# Altium schematic symbol library ATROTECH.SchLib: 260 symbols (part 1 of 2)
Pins are listed as number, name and electrical type; pins without a type are passive.

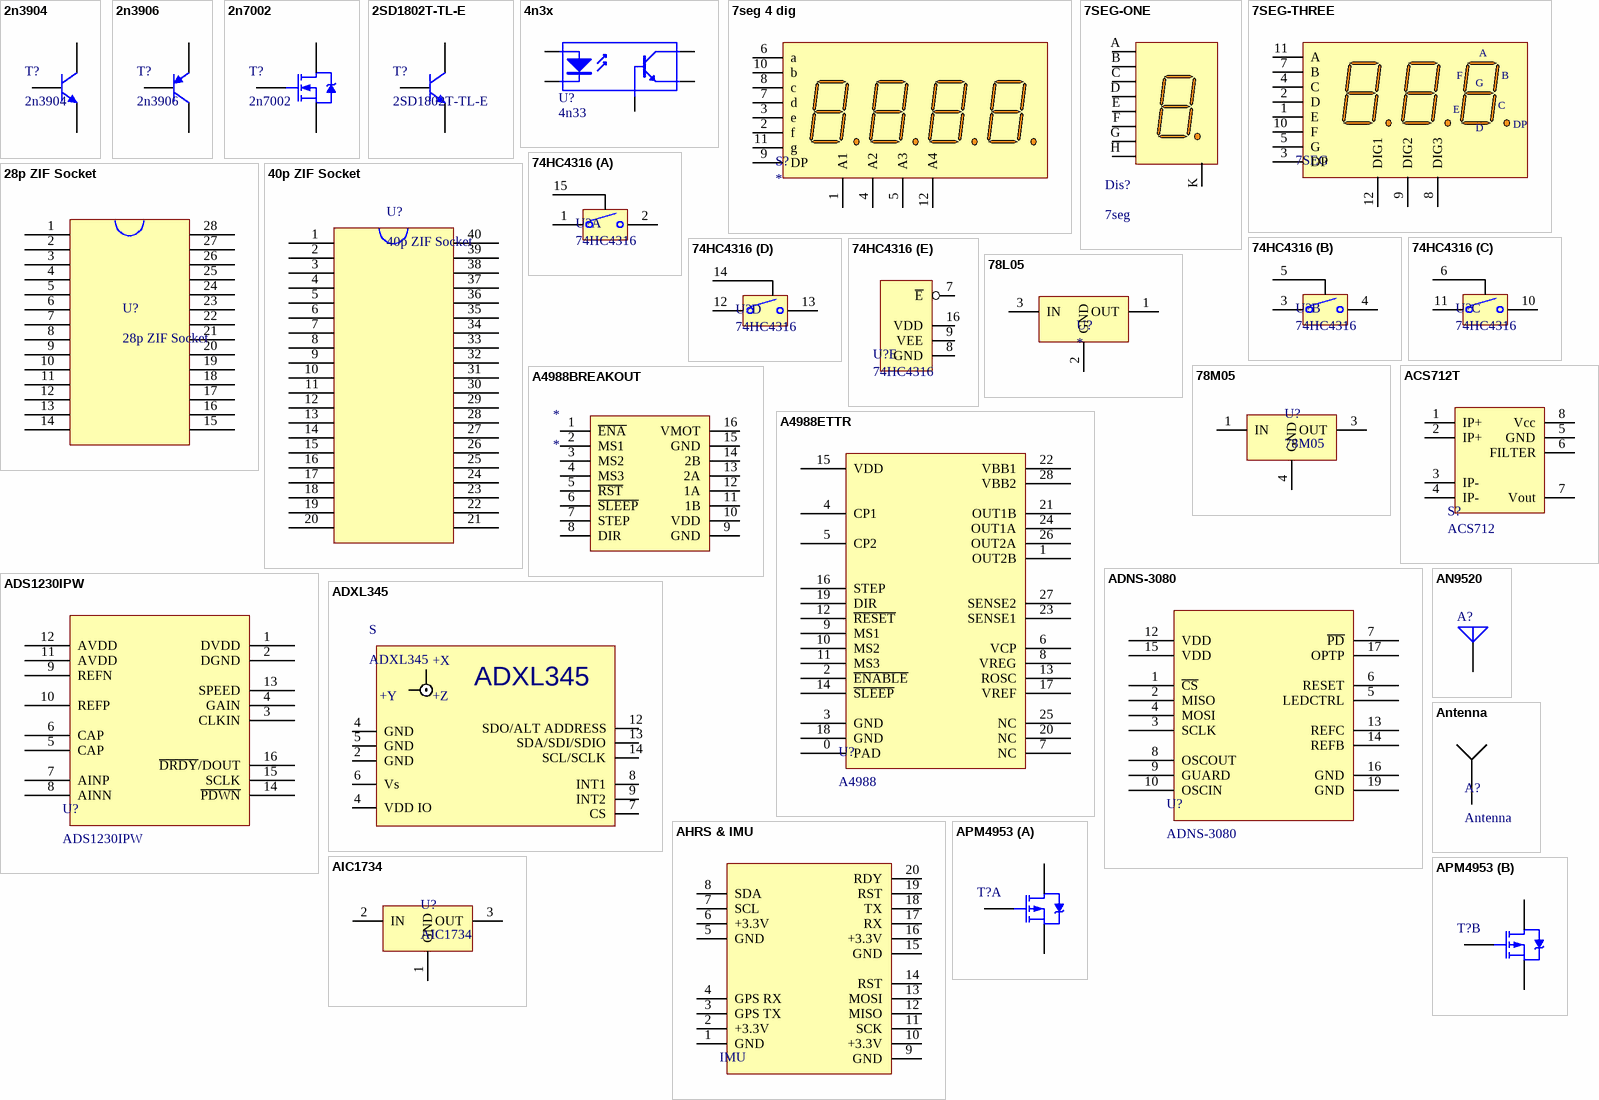
[diagram p0: symbols 2n3904 to APM4953]

## 2n3904
designator T?
Mark: 1A
footprint SOT-23-3 (SOT-23 3PIN)
pins: 1 C, 2 E, 3 B

## 2n3906
designator T?
Mark: 2A
footprint SOT-23-3 (SOT-23 3PIN)
pins: 1 C, 2 E, 3 B

## 2n7002
designator T?
footprint SOT-23-3 (SOT-23 3PIN)
pins: 1 G, 2 S, 3 D

## 2SD1802T-TL-E
designator T?
High-Current Switching  Applications; MANUFACTOR: SANYO Semiconductors
footprint TO-252
pins: 1 B, 3 E, 4 C

## 4n3x
designator U?, comment 4n33
Optocoupler, Photodarlington Output, High Gain, / With Base Connection
footprint SOP-6
pins: 1 A "Anode", 2 K "Cathode", 4 E "Emitter", 5 C "Collector", 6 B "Base"

## 7seg 4 dig
designator S?
footprint 7seg 4dig
pins: 1 A1 "Anode", 2 f "Cathode", 3 e "Cathode", 4 A2 "Anode", 5 A3 "Anode", 6 a "Cathode", 7 d "Cathode", 8 c "Cathode", 9 DP "Cathode", 10 b "Cathode", 11 g "Cathode", 12 A4 "Anode"

## 7SEG-ONE
designator Dis?, comment 7seg
Desgner: Parsa Malekpour; blog: p-malekpour.blogfa.com; Email: malekpour.parsa@Gmail.com
footprint 7SEG-BIG-SINGLE (big 7segment)
pins: A, B, C, D, E, F, G, H, K

## 7SEG-THREE
designator 7SEG, comment TRIPLE  (value not drawn)
CL5361
footprint 7SEG-THREE
pins: 1 E "Cathode", 2 D "Cathode", 3 DP "Cathode", 4 C "Cathode", 5 G "Cathode", 7 B "Cathode", 8 DIG3 "Anode", 9 DIG2 "Anode", 10 F "Cathode", 11 A "Cathode", 12 DIG1 "Anode"

## 28p ZIF Socket
designator U?
40 Pin Zif Socket
footprint Dip40 (40pin Dip IC)
pins: 1, 2, 3, 4, 5, 6, 7, 8, 9, 10, 11, 12, 13, 14, 15, 16, 17, 18, 19, 20, 21, 22, 23, 24, 25, 26, 27, 28

## 40p ZIF Socket
designator U?
40 Pin Zif Socket
footprint Dip40 (40pin Dip IC)
pins: 1, 2, 3, 4, 5, 6, 7, 8, 9, 10, 11, 12, 13, 14, 15, 16, 17, 18, 19, 20, 21, 22, 23, 24, 25, 26, 27, 28, 29, 30, 31, 32, 33, 34, 35, 36, 37, 38, 39, 40

## 74HC4316
designator U?
footprint SOIC-16N
part A pins: 1, 2, 15 1S
part B pins: 3 2Y, 4 2Z, 5 2S
part C pins: 6 3S, 10 3Z, 11 3Y
part D pins: 12 4Y, 13 4Z, 14 4S
part E pins: 7 ~{E}, 8 GND, 9 VEE, 16 VDD

## 78L05
designator U?
footprint TO-92
pins: 1 OUT, 2 GND, 3 IN

## 78M05
designator U?
footprint TO-252
pins: 1 IN, 3 OUT, 4 GND

## A4988BREAKOUT
designator *
footprint A4988BREAKOUT
pins: 1 ~{ENA}, 2 MS1, 3 MS2, 4 MS3, 5 ~{RST}, 6 ~{SLEEP}, 7 STEP, 8 DIR, 9 GND, 10 VDD, 11 1B, 12 1A, 13 2A, 14 2B, 15 GND, 16 VMOT

## A4988ETTR
designator U?, comment A4988
DMOS Microstepping Driver with Translator  And Overcurrent Protection
footprint QFN-28
pins: 0 PAD, 1 OUT2B, 2 ~{ENABLE}, 3 GND, 4 CP1, 5 CP2, 6 VCP, 7 NC, 8 VREG, 9 MS1, 10 MS2, 11 MS3, 12 ~{RESET}, 13 ROSC, 14 ~{SLEEP}, 15 VDD, 16 STEP, 17 VREF, 18 GND, 19 DIR, 20 NC, 21 OUT1B, 22 VBB1, 23 SENSE1, 24 OUT1A, 25 NC, 26 OUT2A, 27 SENSE2, 28 VBB2

## ACS712T
designator S?, comment ACS712
Hall Effect-Based Linear Current Sensor; Designer: Parsa Malekpour; Blog: p-malekpour.blogfa.com
footprint SOIC-8N
pins: 1 IP+, 2 IP+, 3 IP-, 4 IP-, 5 GND, 6 FILTER, 7 Vout, 8 Vcc

## ADNS-3080
designator U?
footprint ADNS-3080
pins: 1 ~{CS}, 2 MISO, 3 SCLK, 4 MOSI, 5 LEDCTRL, 6 RESET, 7 ~{PD}, 8 OSCOUT, 9 GUARD, 10 OSCIN, 11 NC hidden, 12 VDD, 13 REFC, 14 REFB, 15 VDD, 16 GND, 17 OPTP, 18 NC hidden, 19 GND, 20 NC hidden

## ADS1230IPW
designator U?
20-Bit Analog-to-Digital Converter / For Bridge Sensors
footprint TSSOP-16
pins: 1 DVDD, 2 DGND, 3 CLKIN, 4 GAIN, 5 CAP, 6 CAP, 7 AINP, 8 AINN, 9 REFN, 10 REFP, 11 AVDD, 12 AVDD, 13 SPEED, 14 ~{PDWN}, 15 SCLK, 16 ~{DRDY}/DOUT

## ADXL345
designator S
Digital Accelerometer; Designer: Parsa Malekpour
footprint CC-14-1
pins: 2 GND, 4 GND, 4 VDD IO, 5 GND, 6 Vs, 7 CS "Chip Select.", 8 INT1, 9 INT2, 12 SDO/ALT ADDRESS "Serial Data Output/Alternate I2C Address Select.", 13 SDA/SDI/SDIO "Serial Data (I2C)/Serial Data Input (SPI 4-Wire)/Serial Data Input and Output (SPI 3-Wire).", 14 SCL/SCLK "Serial Communications Clock."
text: +X; +Y; +Z

## AHRS & IMU
designator IMU, comment IMU  (value not drawn)
footprint AHRS
pins: 1 GND, 2 +3.3V, 3 GPS TX, 4 GPS RX, 5 GND, 6 +3.3V, 7 SCL, 8 SDA, 9 GND, 10 +3.3V, 11 SCK, 12 MISO, 13 MOSI, 14 RST, 15 GND, 16 +3.3V, 17 RX, 18 TX, 19 RST, 20 RDY

## AIC1734
designator U?
footprint SOT-89
pins: 1 GND, 2 IN, 3 OUT

## AN9520
designator A?  (value not drawn)
Multilayer Chip Antenna for / 2.4GHz Wireless Communication; Published: 24-Mar-1999; LatestRevisionDate: 17-Jul-2002; LatestRevisionNote: Re-released for DXP Platform.; PackageReference: PIN1; Publisher: Altium Limited
footprint AN9520
pins: 1 A

## Antenna
designator A?
footprint Inverted-F Antenna
pins: 1 RF

## APM4953
designator T?  (value not drawn)
Dual P-Channel Enhancement Mode Mosfet
footprint SOIC-8N
part A pins: 1 S, 2 G, 7 D, 8 D
part B pins: 3 S, 4 G, 5 D, 6 D

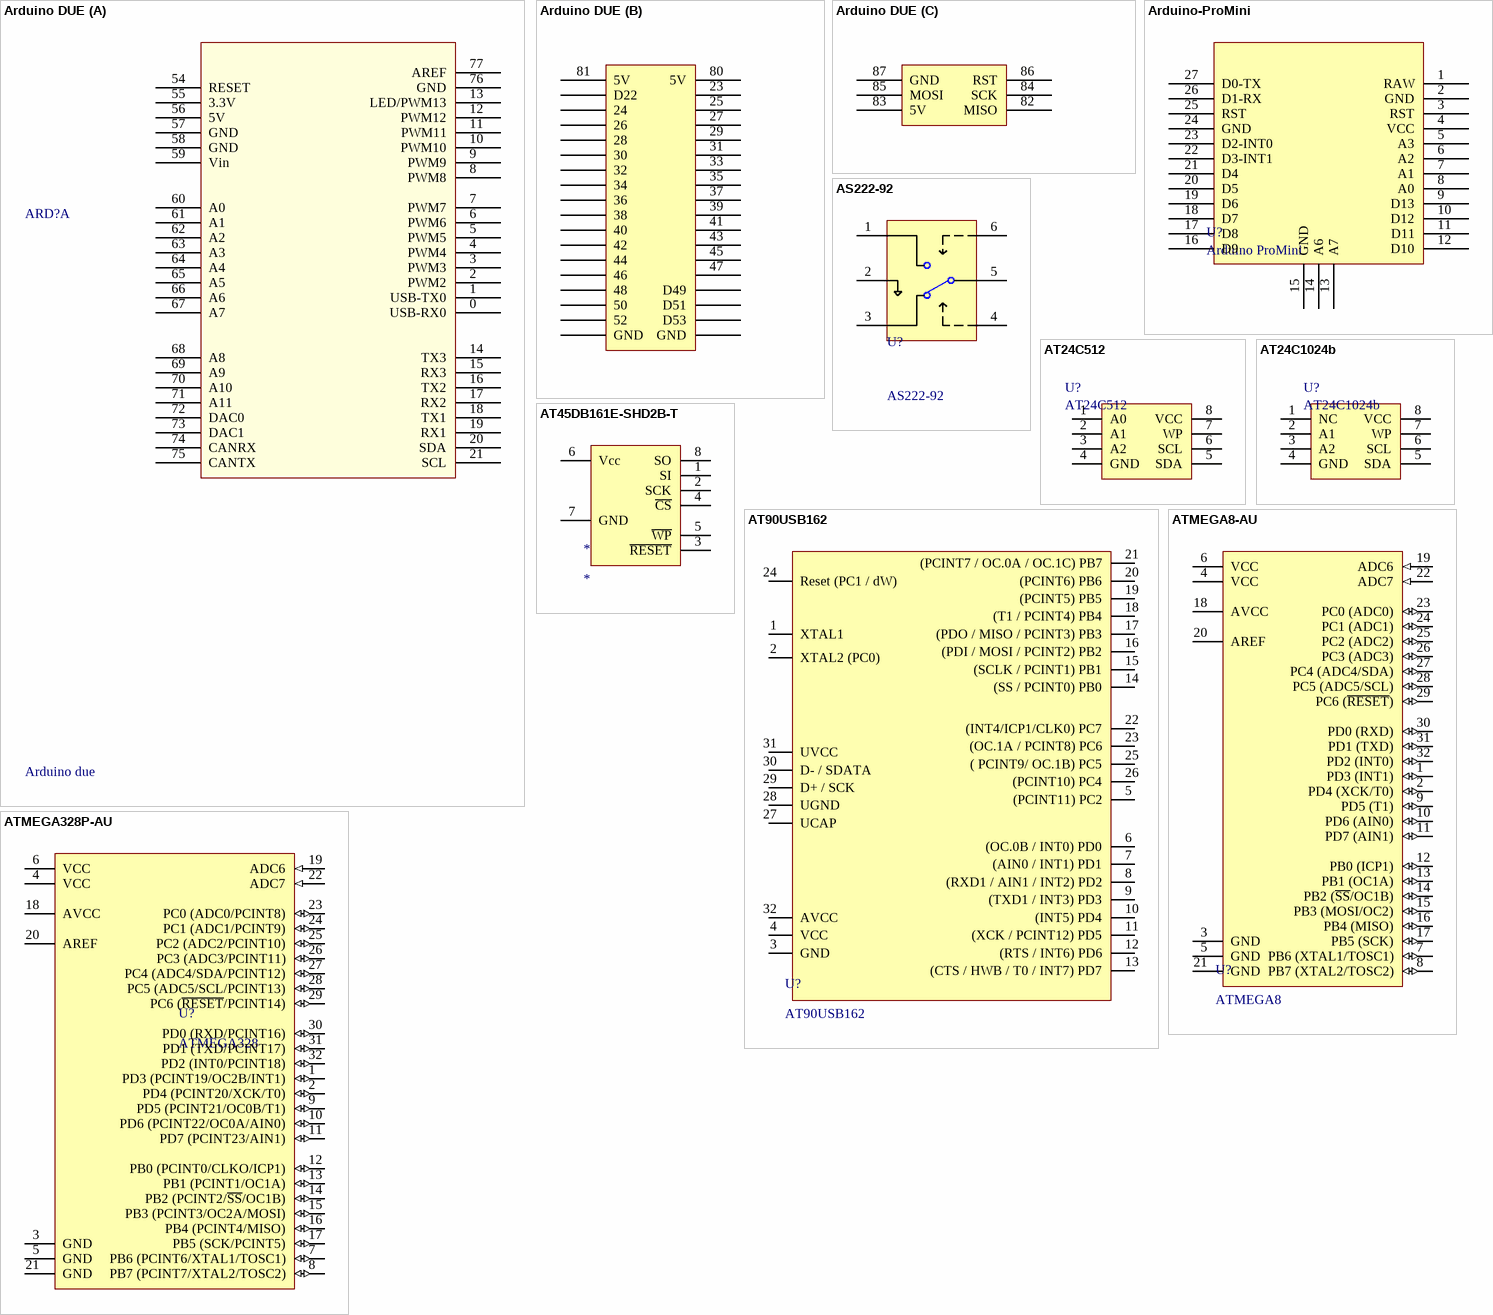
[diagram p1: symbols Arduino DUE to ATMEGA328P-AU]

## Arduino DUE
designator ARD?, comment Arduino due
footprint arduino-due
part A pins: 0 USB-RX0, 1 USB-TX0, 2 PWM2, 3 PWM3, 4 PWM4, 5 PWM5, 6 PWM6, 7 PWM7, 8 PWM8, 9 PWM9, 10 PWM10, 11 PWM11, 12 PWM12, 13 LED/PWM13, 14 TX3, 15 RX3, 16 TX2, 17 RX2, 18 TX1, 19 RX1, 20 SDA, 21 SCL, 54 RESET, 55 3.3V, 56 5V, 57 GND, 58 GND, 59 Vin, 60 A0, 61 A1, 62 A2, 63 A3, 64 A4, 65 A5, 66 A6, 67 A7, 68 A8, 69 A9, 70 A10, 71 A11, 72 DAC0, 73 DAC1, 74 CANRX, 75 CANTX, 76 GND, 77 AREF
part B pins: 22 D22, 23, 24, 25, 26, 27, 28, 29, 30, 31, 32, 33, 34, 35, 36, 37, 38, 39, 40, 41, 42, 43, 44, 45, 46, 47, 48, 49 D49, 50, 51 D51, 52, 53 D53, 78 GND, 79 GND, 80 5V, 81 5V
part C pins: 82 MISO, 83 5V, 84 SCK, 85 MOSI, 86 RST, 87 GND

## Arduino-ProMini
designator U?, comment Arduino ProMini
footprint ARDUINO-PROMINI
pins: 1 RAW, 2 GND, 3 RST, 4 VCC, 5 A3, 6 A2, 7 A1, 8 A0, 9 D13, 10 D12, 11 D11, 12 D10, 13 A7, 14 A6, 15 GND, 16 D9, 17 D8, 18 D7, 19 D6, 20 D5, 21 D4, 22 D3-INT1, 23 D2-INT0, 24 GND, 25 RST, 26 D1-RX, 27 D0-TX

## AS222-92
designator U?
PHEMT GaAs IC SPDT Switch; Publisher: ATROPATE.COM
footprint SC-70-6
pins: 1 J3, 2 GND, 3 J2, 4 V1, 5 J1, 6 V2

## AT24C512
designator U?
512B EEPROM
footprint DIP8 (Footprint not found)
3D model DIP8 (PCB3D Model)
footprint soic-8n
pins: 1 A0, 2 A1, 3 A2, 4 GND, 5 SDA, 6 SCL, 7 WP, 8 VCC

## AT24C1024b
designator U?
1028 byte serial EEPROM
footprint DIP8 (Footprint not found)
pins: 1 NC, 2 A1, 3 A2, 4 GND, 5 SDA, 6 SCL, 7 WP, 8 VCC

## AT45DB161E-SHD2B-T
designator *
pins: 1 SI, 2 SCK, 3 ~{RESET}, 4 ~{CS}, 5 ~{WP}, 6 Vcc, 7 GND, 8 SO

## AT90USB162
designator U?
AT90USB162 ATMEL MICRO; DESIGNER: PARSA MALEKPOUR
footprint 32A_N (Footprint not found)
pins: 1 XTAL1, 2 XTAL2 (PC0) , 3 GND, 4 VCC, 5 (PCINT11) PC2, 6 (OC.0B / INT0) PD0, 7 (AIN0 / INT1) PD1, 8 (RXD1 / AIN1 / INT2) PD2, 9 (TXD1 / INT3) PD3, 10 (INT5) PD4, 11 (XCK / PCINT12) PD5, 12 (RTS / INT6) PD6, 13 (CTS / HWB / T0 / INT7) PD7, 14 (SS / PCINT0) PB0, 15 (SCLK / PCINT1) PB1, 16 (PDI / MOSI / PCINT2) PB2, 17 (PDO / MISO / PCINT3) PB3, 18 (T1 / PCINT4) PB4, 19 (PCINT5) PB5, 20 (PCINT6) PB6, 21 (PCINT7 / OC.0A / OC.1C) PB7, 22 (INT4/ICP1/CLK0) PC7, 23 (OC.1A / PCINT8) PC6, 24 Reset (PC1 / dW), 25 ( PCINT9/ OC.1B) PC5, 26 (PCINT10) PC4, 27 UCAP, 28 UGND, 29 D+ / SCK, 30 D- / SDATA, 31 UVCC, 32 AVCC

## ATMEGA8-AU
designator U?, comment ATMEGA8
8-bit AVR Microcontroller, 8KB Flash, 512 Bytes EEPROM, 1KB SRAM, 32-pin TQFP, Industrial Grade (-40°C to 85°C)
footprint TQFP-32
pins: 1 PD3 (INT1) (io), 2 PD4 (XCK/T0) (io), 3 GND (power), 4 VCC (power), 5 GND (power), 6 VCC (power), 7 PB6 (XTAL1/TOSC1) (io), 8 PB7 (XTAL2/TOSC2) (io), 9 PD5 (T1) (io), 10 PD6 (AIN0) (io), 11 PD7 (AIN1) (io), 12 PB0 (ICP1) (io), 13 PB1 (OC1A) (io), 14 PB2 (~{SS}/OC1B) (io), 15 PB3 (MOSI/OC2) (io), 16 PB4 (MISO) (io), 17 PB5 (SCK) (io), 18 AVCC (power), 19 ADC6 (in), 20 AREF (power), 21 GND (power), 22 ADC7 (in), 23 PC0 (ADC0) (io), 24 PC1 (ADC1) (io), 25 PC2 (ADC2) (io), 26 PC3 (ADC3) (io), 27 PC4 (ADC4/SDA) (io), 28 PC5 (ADC5/SCL) (io), 29 PC6 (~{RESET}) (io), 30 PD0 (RXD) (io), 31 PD1 (TXD) (io), 32 PD2 (INT0) (io)

## ATMEGA328P-AU
designator U?, comment ATMEGA328
footprint TQFP-32
pins: 1 PD3 (PCINT19/OC2B/INT1) (io), 2 PD4 (PCINT20/XCK/T0) (io), 3 GND (power), 4 VCC (power), 5 GND (power), 6 VCC (power), 7 PB6 (PCINT6/XTAL1/TOSC1) (io), 8 PB7 (PCINT7/XTAL2/TOSC2) (io), 9 PD5 (PCINT21/OC0B/T1) (io), 10 PD6 (PCINT22/OC0A/AIN0) (io), 11 PD7 (PCINT23/AIN1) (io), 12 PB0 (PCINT0/CLKO/ICP1) (io), 13 PB1 (PCINT1/OC1A) (io), 14 PB2 (PCINT2/~{SS}/OC1B) (io), 15 PB3 (PCINT3/OC2A/MOSI) (io), 16 PB4 (PCINT4/MISO) (io), 17 PB5 (SCK/PCINT5) (io), 18 AVCC (power), 19 ADC6 (in), 20 AREF, 21 GND (power), 22 ADC7 (in), 23 PC0 (ADC0/PCINT8) (io), 24 PC1 (ADC1/PCINT9) (io), 25 PC2 (ADC2/PCINT10) (io), 26 PC3 (ADC3/PCINT11) (io), 27 PC4 (ADC4/SDA/PCINT12) (io), 28 PC5 (ADC5/SCL/PCINT13) (io), 29 PC6 (~{RESET}/PCINT14) (io), 30 PD0 (RXD/PCINT16) (io), 31 PD1 (TXD/PCINT17) (io), 32 PD2 (INT0/PCINT18) (io)

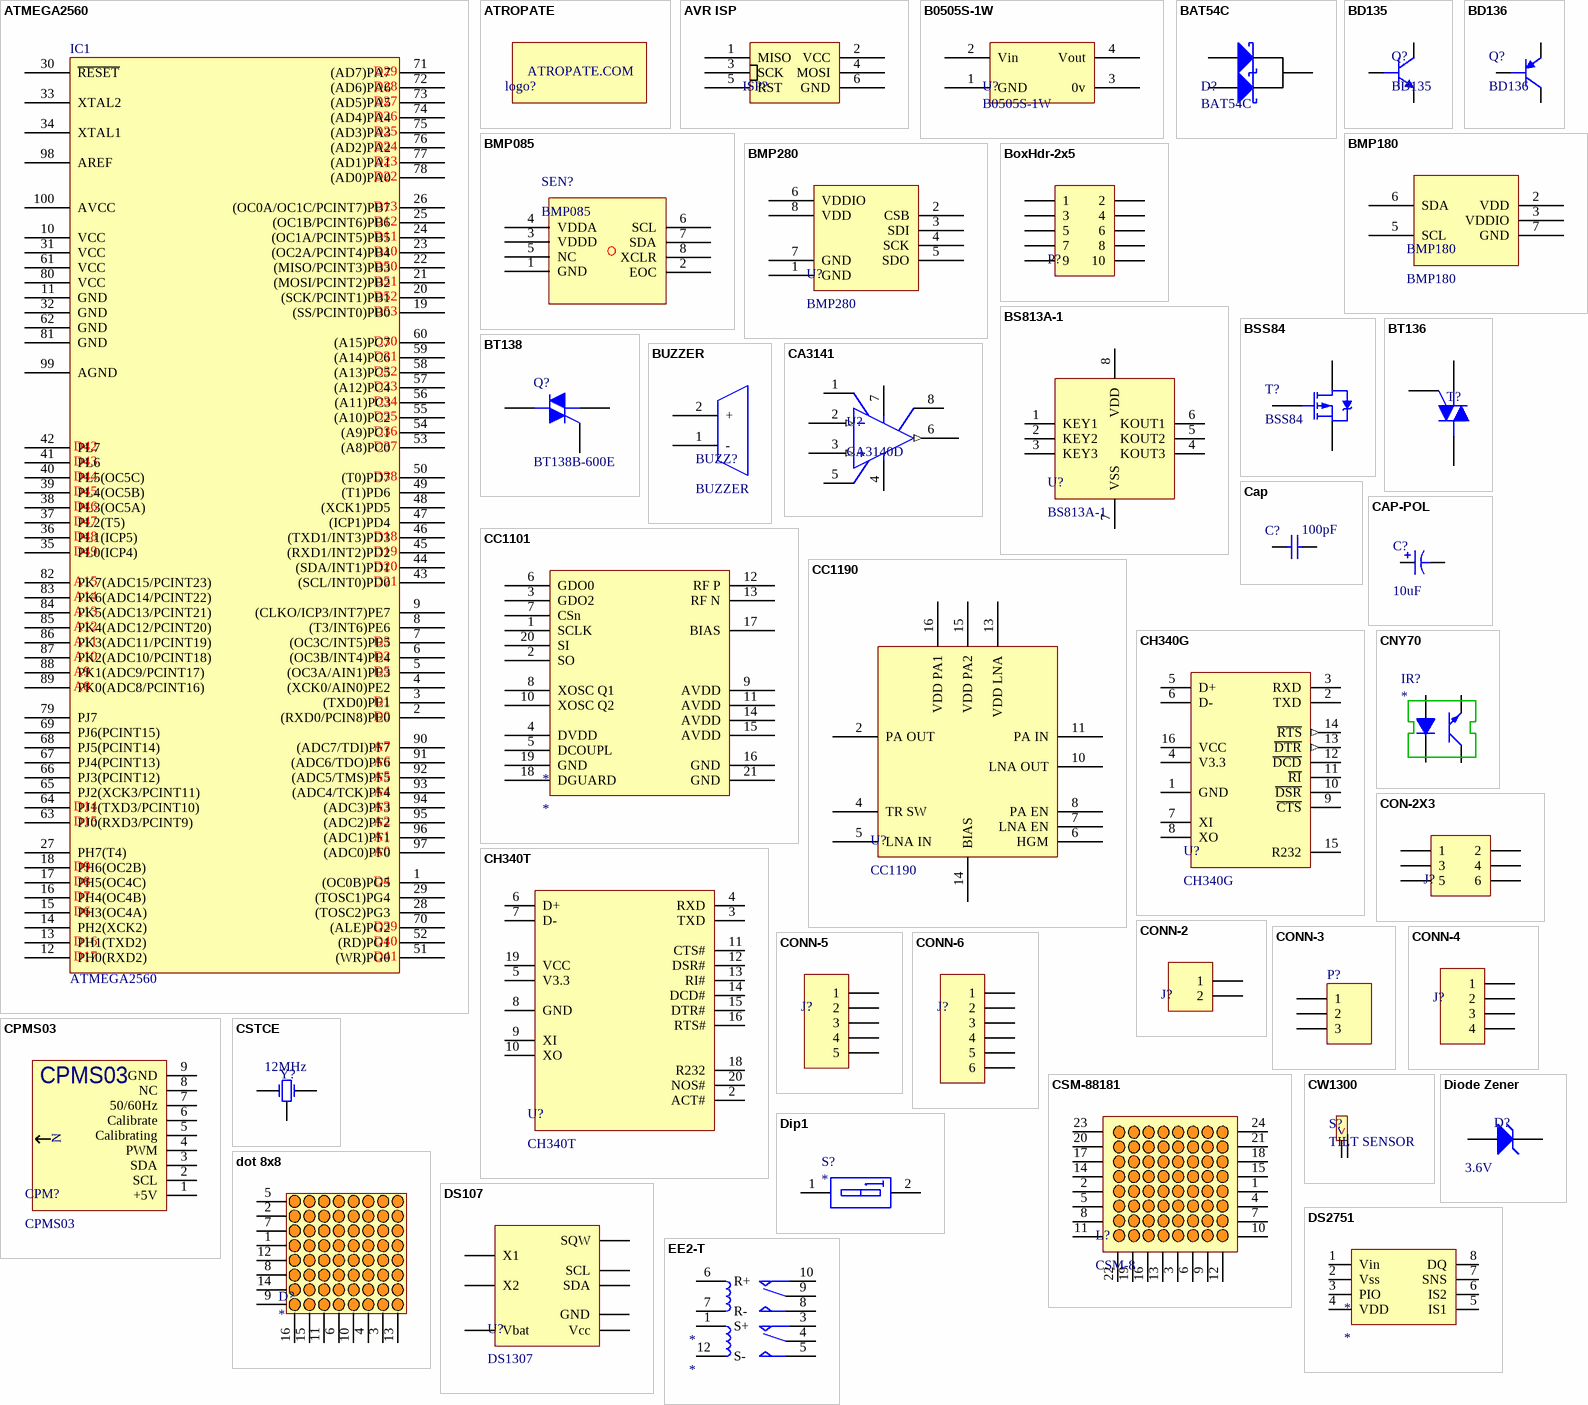
[diagram p2: symbols ATMEGA2560 to EE2-T]

## ATMEGA2560
designator IC1
The high-performance, low-power Atmel 8-bit AVR RISC-based microcontroller
footprint TQFP-100
pins: 1 (OC0B)PG5, 2 (RXD0/PCIN8)PE0, 3 (TXD0)PE1, 4 (XCK0/AIN0)PE2, 5 (OC3A/AIN1)PE3, 6 (OC3B/INT4)PE4, 7 (OC3C/INT5)PE5, 8 (T3/INT6)PE6, 9 (CLKO/ICP3/INT7)PE7, 10 VCC, 11 GND, 12 PH0(RXD2), 13 PH1(TXD2), 14 PH2(XCK2), 15 PH3(OC4A), 16 PH4(OC4B), 17 PH5(OC4C), 18 PH6(OC2B), 19 (SS/PCINT0)PB0, 20 (SCK/PCINT1)PB1, 21 (MOSI/PCINT2)PB2, 22 (MISO/PCINT3)PB3, 23 (OC2A/PCINT4)PB4, 24 (OC1A/PCINT5)PB5, 25 (OC1B/PCINT6)PB6, 26 (OC0A/OC1C/PCINT7)PB7, 27 PH7(T4), 28 (TOSC2)PG3, 29 (TOSC1)PG4, 30 ~{RESET}, 31 VCC, 32 GND, 33 XTAL2, 34 XTAL1, 35 PL0(ICP4), 36 PL1(ICP5), 37 PL2(T5), 38 PL3(OC5A), 39 PL4(OC5B), 40 PL5(OC5C), 41 PL6, 42 PL7, 43 (SCL/INT0)PD0, 44 (SDA/INT1)PD1, 45 (RXD1/INT2)PD2, 46 (TXD1/INT3)PD3, 47 (ICP1)PD4, 48 (XCK1)PD5, 49 (T1)PD6, 50 (T0)PD7, 51 (WR)PG0, 52 (RD)PG1, 53 (A8)PC0, 54 (A9)PC1, 55 (A10)PC2, 56 (A11)PC3, 57 (A12)PC4, 58 (A13)PC5, 59 (A14)PC6, 60 (A15)PC7, 61 VCC, 62 GND, 63 PJ0(RXD3/PCINT9), 64 PJ1(TXD3/PCINT10), 65 PJ2(XCK3/PCINT11), 66 PJ3(PCINT12), 67 PJ4(PCINT13), 68 PJ5(PCINT14), 69 PJ6(PCINT15), 70 (ALE)PG2, 71 (AD7)PA7, 72 (AD6)PA6, 73 (AD5)PA5, 74 (AD4)PA4, 75 (AD3)PA3, 76 (AD2)PA2, 77 (AD1)PA1, 78 (AD0)PA0, 79 PJ7, 80 VCC, 81 GND, 82 PK7(ADC15/PCINT23), 83 PK6(ADC14/PCINT22), 84 PK5(ADC13/PCINT21), 85 PK4(ADC12/PCINT20), 86 PK3(ADC11/PCINT19), 87 PK2(ADC10/PCINT18), 88 PK1(ADC9/PCINT17), 89 PK0(ADC8/PCINT16), 90 (ADC7/TDI)PF7, 91 (ADC6/TDO)PF6, 92 (ADC5/TMS)PF5, 93 (ADC4/TCK)PF4, 94 (ADC3)PF3, 95 (ADC2)PF2, 96 (ADC1)PF1, 97 (ADC0)PF0, 98 AREF, 99 AGND, 100 AVCC
text: D29; D28; D27; D26; D25; D24; D23; D22; D13; D12; D11; D10; D50; D51; D52; D53; D30; D31; D32; D33; D34; D35; D36; D42; D37; D43; D44; D38; D45; D46; D47; D48; D18; D49; D19; D20; A15; D21; A14; A13; A12; A11; D3; A10; D2; A9; D5; A8; D1; D0; A7; A6; A5; A4; D14; A3; D15; A2; A1; A0; D9; D8; D4; D7; D6; D39; D16; D40; D17; D41

## ATROPATE
designator logo?  (value not drawn)
footprint LOGO
footprint LOGO-250
text: ATROPATE.COM

## AVR ISP
designator ISP?  (value not drawn)
footprint phdr2x3
pins: 1 MISO, 2 VCC, 3 SCK, 4 MOSI, 5 RST, 6 GND

## B0505S-1W
designator U?
1W, FIXED INPUT ISOLATED & UNREGULATED / SINGLE OUTPUT DC-DC CONVERTER
footprint B_S-1W
pins: 1 GND, 2 Vin, 3 0v, 4 Vout

## BAT54C
designator D?
SURFACE MOUNT SCHOTTKY BARRIER DIODE
footprint SOT-23
pins: 1 A, 2 A, 3 K

## BD135
designator Q?
BD135,BD137,BD139
footprint TO-126
pins: 1 E, 2 C, 3 B

## BD136
designator Q?
BD136,BD138,BD140
footprint TO-126
pins: 1 E, 2 C, 3 B

## BMP085
designator SEN?
Digital Pressure Sensor
footprint BMP085 (Digital pressure sensor)
pins: 1 GND, 2 EOC, 3 VDDD, 4 VDDA, 5 NC, 6 SCL, 7 SDA, 8 XCLR

## BMP180
designator BMP180
footprint BMP180
pins: 2 VDD, 3 VDDIO, 5 SCL, 6 SDA, 7 GND

## BMP280
designator U?
Digital Pressure Sensor
footprint BMP280
pins: 1 GND, 2 CSB, 3 SDI, 4 SCK, 5 SDO, 6 VDDIO, 7 GND, 8 VDD

## BoxHdr-2x5
designator P?, comment Box Header  (value not drawn)
footprint BoxHDR-2x5
pins: 1, 2, 3, 4, 5, 6, 7, 8, 9, 10

## BS813A-1
designator U?
Touch Key
footprint SOIC-8N
pins: 1 KEY1, 2 KEY2, 3 KEY3, 4 KOUT3, 5 KOUT2, 6 KOUT1, 7 VSS, 8 VDD

## BSS84
designator T?
P-channel enhancement mode vertical DMOS transistor
footprint SOT-23
pins: 1 G, 2 S, 3 D

## BT136
designator T?  (value not drawn)
BT136 series TRIAC
footprint TO-220
footprint TO-220 Right
pins: 1 T1, 2 T2, 3 G

## BT138
designator Q?, comment BT138B-600E
4Q Triac; Publisher: ATROPATE
footprint SOT-404
simulation model MAC15A8 (Spice Subcircuit)
pins: 1 M1, 2 M2, 3 G

## BUZZER
designator BUZZ?
footprint BUZZER
pins: 1 -, 2 +

## CA3141
designator U?, comment CA3140D
4.5MHz, BiMOS Operational Amplifier with  MOSFET Input/Bipolar Output
footprint SOIC-8N
pins: 1 OFFSET  NULL, 2 INV. INPUT (in), 3 NON-INV. INPUT (in), 4 V-, 5 OFFSET  NULL, 6 OUTPUT (out), 7 V+, 8 STROBE 

## Cap
designator C?, comment 100pF
Capacitor; Designer: Parsa Malekpour; Value: 100pF
footprint CAP10
footprint C1206
footprint C805
pins: 1, 2

## CAP-POL
designator C?, comment 10uF
Polar Capacitor; Voltage: 10V; Value: 10uF
footprint cap-rad10 (10uf)
footprint CAP-SMD-6
footprint CAP-TAN-A (Chip Capacitor, 2-Leads, Body 3.2x1.6mm, IPC High Density, chip Tantalum)
footprint CAP-TAN-B
footprint cap-smd-10
pins: 1, 2

## CC1101
designator *
footprint QFN-20
pins: 1 SCLK, 2 SO, 3 GDO2, 4 DVDD, 5 DCOUPL, 6 GDO0, 7 CSn, 8 XOSC Q1, 9 AVDD, 10 XOSC Q2, 11 AVDD, 12 RF P, 13 RF N, 14 AVDD, 15 AVDD, 16 GND, 17 BIAS, 18 DGUARD, 19 GND, 20 SI, 21 GND

## CC1190
designator U?
footprint QFN-16
pins: 1 GND hidden to GND, 2 PA OUT, 3 GND hidden to GND, 4 TR SW, 5 LNA IN, 6 HGM, 7 LNA EN, 8 PA EN, 9 GND hidden to GND, 10 LNA OUT, 11 PA IN, 12 GND hidden to GND, 13 VDD LNA, 14 BIAS, 15 VDD PA2, 16 VDD PA1, 17 PAD hidden to GND

## CH340G
designator U?
CH340 Series USB Interface Integrated Circuit
footprint SOIC-16N
pins: 1 GND, 2 TXD, 3 RXD, 4 V3.3, 5 D+, 6 D-, 7 XI, 8 XO, 9 ~{CTS}, 10 ~{DSR}, 11 ~{RI}, 12 ~{DCD}, 13 ~{DTR} (out), 14 ~{RTS} (out), 15 R232, 16 VCC

## CH340T
designator U?
USB Bus Convert Chip and It Can Realize USB Convert to Serial Interface
footprint SSOP-20n
pins: 1 CKO hidden, 2 ACT#, 3 TXD, 4 RXD, 5 V3.3, 6 D+, 7 D-, 8 GND, 9 XI, 10 XO, 11 CTS#, 12 DSR#, 13 RI#, 14 DCD#, 15 DTR#, 16 RTS#, 17 IR# hidden, 18 R232, 19 VCC, 20 NOS#

## CNY70
designator IR?
footprint CNY70
pins: A, C, E, K

## CON-2X3
designator J?  (value not drawn)
footprint PHDR2X3
pins: 1, 2, 3, 4, 5, 6

## CONN-2
designator J?  (value not drawn)
footprint XH-2
footprint CONN-2BIG
footprint CONN-2 RIGHT
pins: 1, 2

## CONN-3
designator P?
Header, 3-Pin
footprint XH-3
footprint PH-3
footprint PHDR3
footprint xh-3
pins: 1, 2, 3

## CONN-4
designator J?  (value not drawn)
footprint XH-4
footprint PHDR4
pins: 1, 2, 3, 4

## CONN-5
designator J?  (value not drawn)
footprint PHDR5
footprint XH-5
footprint PH-5
pins: 1, 2, 3, 4, 5

## CONN-6
designator J?  (value not drawn)
footprint PHDR6
footprint PH-6
footprint XH-6
pins: 1, 2, 3, 4, 5, 6

## CPMS03
designator CPM?
Compass
footprint CPMS03
pins: 1 +5V, 2 SCL, 3 SDA, 4 PWM, 5 Calibrating, 6 Calibrate, 7 50/60Hz, 8 NC, 9 GND
text: N

## CSM-88181
designator L?, comment CSM-8
Dot Matrix
footprint csm-88181
pins: 1 5b "Cathode", 2 5a "Cathode", 3 5 "Anode", 4 6b "Cathode", 5 6a "Cathode", 6 "Anode", 7 7b "Cathode", 8 7a "Cathode", 9 7 "Anode", 10 8b "Cathode", 11 8a "Cathode", 12 8 "Anode", 13 4 "Anode", 14 4a "Cathode", 15 4b "Cathode", 16 3 "Anode", 17 3a "Cathode", 18 3b "Cathode", 19 2 "Anode", 20 2a "Cathode", 21 2b "Cathode", 22 1 "Anode", 23 1a "Cathode", 24 1b "Cathode"

## CSTCE
designator Y?, comment 12MHz
Resonator; Designer: Parsa Malekpour; Email: Malekpour.parsa@Gmail.com; Value: 12MHz
footprint CSTCE
pins: 1 OSC1, 2 GND, 3 OSC2

## CW1300
designator S?, comment TILT SENSOR
footprint CW1300
pins: 1, 2

## Diode Zener
designator D?, comment Voltage: 3.6V  (hidden comment: Zener)
footprint diode-SMD
pins: 1 A, 2 K

## Dip1
designator S?
footprint dip 1
pins: 1 A1, 2 B1

## dot 8x8
designator D?
footprint DOT MATRIS
pins: 1 R4 "Cathode", 2 R2 "Cathode", 3 C7 "Anode", 4 C6 "Anode", 5 R1 "Cathode", 6 C4 "Anode", 7 R3 "Cathode", 8 R6 "Cathode", 9 R8 "Cathode", 10 C5 "Anode", 11 C3 "Anode", 12 R5 "Cathode", 13 C8 "Anode", 14 R7 "Cathode", 15 C2 "Anode", 16 C1 "Anode"

## DS107
designator U?, comment DS1307
footprint SOIC-8N
pins: 1 X1, 2 X2, 3 Vbat, 4 GND, 5 SDA, 6 SCL, 7 SQW, 8 Vcc

## DS2751
designator *
pins: 1 Vin, 2 Vss, 3 PIO, 4 VDD, 5 IS1, 6 IS2, 7 SNS, 8 DQ

## EE2-T
designator *
pins: 1 S+, 3 NC, 4 COM, 5 NO, 6 R+, 7 R-, 8 NO, 9 COM, 10 NC, 12 S-

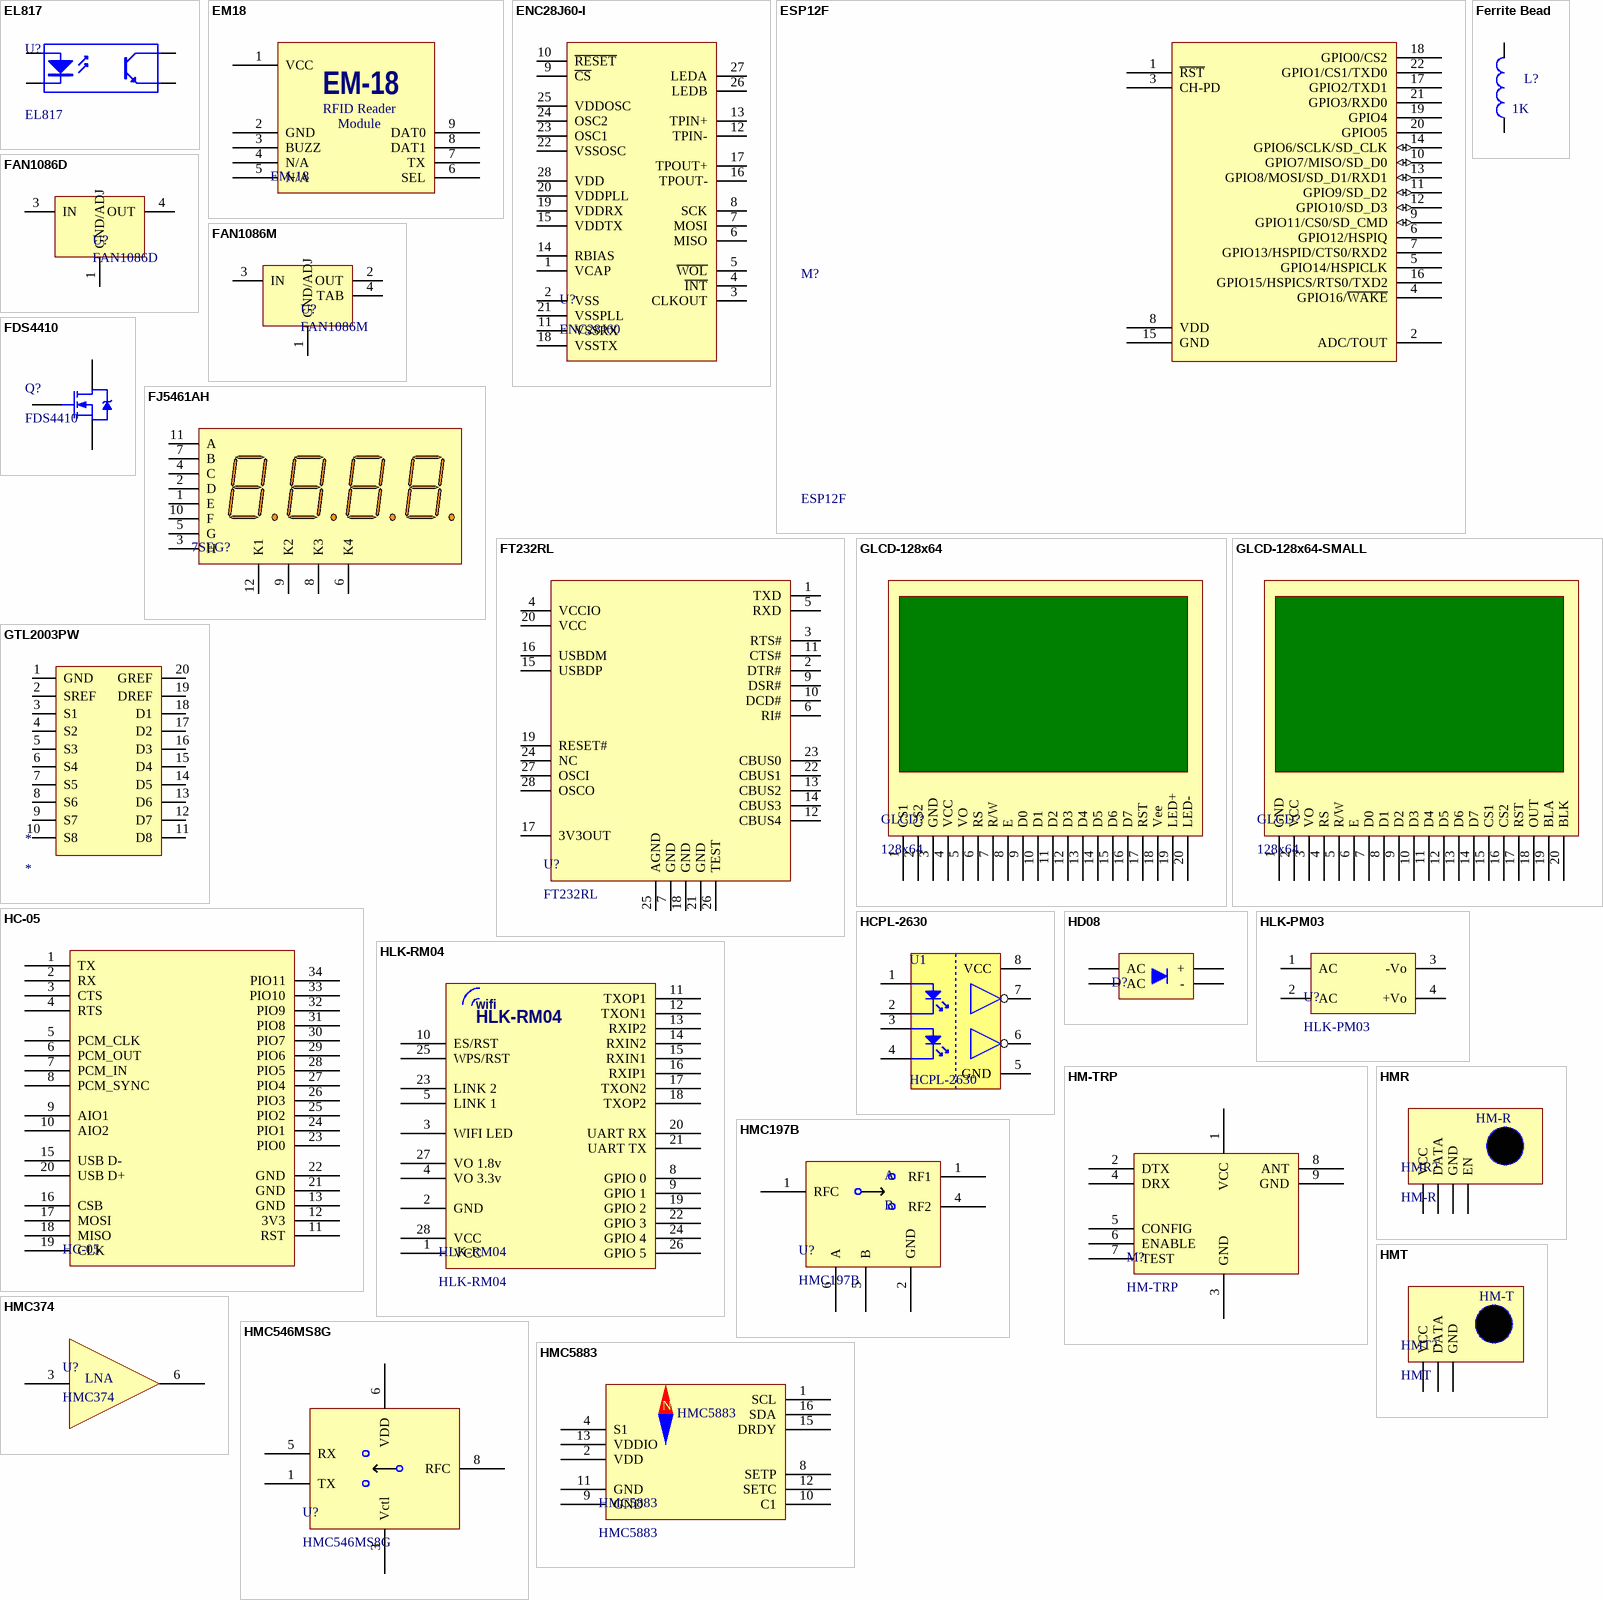
[diagram p3: symbols EL817 to HMT]

## EL817
designator U?
4-Pin Phototransistor Optocoupler; Publisher: AtroTech
footprint SOIC-4-BIG
pins: 1 A "Anode", 2 K "Cathode", 3 E "Emitter", 4 C "Collector"

## EM18
designator EM-18, comment EM-18  (value not drawn)
EM-18 RFID Reader; DESIGNER: PARSA MALEKPOUR; EMAIL: MALEKPOUR.PARSA@GMAIL.COM
footprint EM-18 (RFID Reader Module)
pins: 1 VCC, 2 GND, 3 BUZZ, 4 N/A, 5 N/A, 6 SEL, 7 TX, 8 DAT1, 9 DAT0
text: RFID Reader; Module

## ENC28J60-I
designator U?, comment ENC28J60
Stand-Alone Ethernet Controller  with SPI Interface
footprint SOIC-28N
pins: 1 VCAP, 2 VSS, 3 CLKOUT, 4 ~{INT}, 5 ~{WOL}, 6 MISO, 7 MOSI, 8 SCK, 9 ~{CS}, 10 ~{RESET}, 11 VSSRX, 12 TPIN-, 13 TPIN+, 14 RBIAS, 15 VDDTX, 16 TPOUT-, 17 TPOUT+, 18 VSSTX, 19 VDDRX, 20 VDDPLL, 21 VSSPLL, 22 VSSOSC, 23 OSC1, 24 OSC2, 25 VDDOSC, 26 LEDB, 27 LEDA, 28 VDD

## ESP12F
designator M?
footprint ESP12F
pins: 1 ~{RST} "Reset", 2 ADC/TOUT "ADC Input Or TOUT Output", 3 CH-PD "Chip enable", 4 GPIO16/~{WAKE} "GPIO16 or Deep-Sleep Wakeup", 5 GPIO14/HSPICLK "GPIO14 or SPI CLK", 6 GPIO12/HSPIQ "GPIO12 or SPIQ", 7 GPIO13/HSPID/CTS0/RXD2 "GPIO13 or SPID", 8 VDD "Power supply", 9 GPIO11/CS0/SD_CMD (io) "Power supply", 10 GPIO7/MISO/SD_D0 (io) "Power supply", 11 GPIO9/SD_D2 (io) "Power supply", 12 GPIO10/SD_D3 (io) "Power supply", 13 GPIO8/MOSI/SD_D1/RXD1 (io) "Power supply", 14 GPIO6/SCLK/SD_CLK (io) "Power supply", 15 GND "Power ground", 16 GPIO15/HSPICS/RTS0/TXD2 "GPIO15 or SPICS", 17 GPIO2/TXD1 "GPIO2 or TX", 18 GPIO0/CS2 "GPIO0 or SPICS2", 19 GPIO4 "GPIO5", 20 GPIO05 "GPIO4", 21 GPIO3/RXD0 "GPIO3 or UART RXD", 22 GPIO1/CS1/TXD0 "GPIO1 or UART TXD"

## FAN1086D
designator U?
1.5A Adjustable/Fixed Low Dropout Linear Regulator
footprint DPAK
pins: 1 GND/ADJ, 3 IN, 4 OUT

## FAN1086M
designator U?
1.5A Adjustable/Fixed Low Dropout Linear Regulator
footprint D2PAK-3 (TO-263  3-Lead Middle Pin Long)
pins: 1 GND/ADJ, 2 OUT, 3 IN, 4 TAB

## FDS4410
designator Q?
Single N-Channel Logic Level PWM Optimized PowerTrenchTM MOSFET
footprint SOIC-8N
pins: 1 S, 2 S, 3 S, 4 G, 5 D, 6 D, 7 D, 8 D

## Ferrite Bead
designator L?, comment 1K
FERRITE BEAD; Code_IEC: 1005; Published: 8-Jun-2000; LatestRevisionDate: 29-May-2009; LatestRevisionNote: IPC-7351 Footprint Added.; Publisher: Altium Limited; PackageDescription: Chip Inductor; Code_JEITA: 0402; Value: 1K
footprint r805
footprint r0603
footprint r1206
pins: 1, 2

## FJ5461AH
designator 7SEG?  (value not drawn)
4 Digit Common Cathode LED Display
footprint 7 SEG 4DIG-1
pins: 1 E "Cathode", 2 D "Cathode", 3 H "Cathode", 4 C "Cathode", 5 G "Cathode", 6 K4 "Anode", 7 B "Cathode", 8 K3 "Anode", 9 K2 "Anode", 10 F "Cathode", 11 A "Cathode", 12 K1 "Anode"

## FT232RL
designator U?
footprint SSOP-28N
pins: 1 TXD, 2 DTR#, 3 RTS#, 4 VCCIO, 5 RXD, 6 RI#, 7 GND, 8 NC hidden, 9 DSR#, 10 DCD#, 11 CTS#, 12 CBUS4, 13 CBUS2, 14 CBUS3, 15 USBDP, 16 USBDM, 17 3V3OUT, 18 GND, 19 RESET#, 20 VCC, 21 GND, 22 CBUS1, 23 CBUS0, 24 NC, 25 AGND, 26 TEST, 27 OSCI, 28 OSCO

## GLCD-128x64
designator GLCD?, comment 128x64
pins: 1 CS1, 2 CS2, 3 GND, 4 VCC, 5 VO, 6 RS, 7 R/W, 8 E, 9 D0, 10 D1, 11 D2, 12 D3, 13 D4, 14 D5, 15 D6, 16 D7, 17 RST, 18 Vee, 19 LED+, 20 LED-

## GLCD-128x64-SMALL
designator GLCD?, comment 128x64
footprint LCD 128x64-SMALL
pins: 1 GND, 2 VCC, 3 VO, 4 RS, 5 R/W, 6 E, 7 D0, 8 D1, 9 D2, 10 D3, 11 D4, 12 D5, 13 D6, 14 D7, 15 CS1, 16 CS2, 17 RST, 18 OUT, 19 BLA, 20 BLK

## GTL2003PW
designator *
pins: 1 GND, 2 SREF, 3 S1, 4 S2, 5 S3, 6 S4, 7 S5, 8 S6, 9 S7, 10 S8, 11 D8, 12 D7, 13 D6, 14 D5, 15 D4, 16 D3, 17 D2, 18 D1, 19 DREF, 20 GREF

## HC-05
designator HC-05  (value not drawn)
footprint hc-05
pins: 1 TX, 2 RX, 3 CTS, 4 RTS, 5 PCM_CLK, 6 PCM_OUT, 7 PCM_IN, 8 PCM_SYNC, 9 AIO1, 10 AIO2, 11 RST, 12 3V3, 13 GND, 15 USB D-, 16 CSB, 17 MOSI, 18 MISO, 19 CLK, 20 USB D+, 21 GND, 22 GND, 23 PIO0, 24 PIO1, 25 PIO2, 26 PIO3, 27 PIO4, 28 PIO5, 29 PIO6, 30 PIO7, 31 PIO8, 32 PIO9, 33 PIO10, 34 PIO11

## HCPL-2630
designator U1
HIGH SPEED-10 MBit/s  LOGIC GATE OPTOCOUPLERS
footprint DIP-8
pins: 1 A1, 2 K1, 3 A2, 4 K2, 5 GND, 6 Vo, 7 Ve, 8 VCC

## HD08
designator D?  (value not drawn)
footprint HD08 (Footprint not found)
pins: 1 +, 2 -, 3 AC, 4 AC

## HLK-PM03
designator U?
Ultra-compact module power
footprint HLK-PM03
pins: 1 AC, 2 AC, 3 -Vo, 4 +Vo

## HLK-RM04
designator HLK-RM04
pins: 1 VCC (power) "5 Power input", 2 GND (power) "Power ground", 3 WIFI LED (power) "WLAN Activity LED", 4 VO 3.3v "3.3V Output (Suuport Atmost 300mA)", 5 LINK 1 "10/100 PHY Port #1 activity LED", 6 N/A hidden "Reserved", 7 N/A hidden "Reserved", 8 GPIO 0 "GPIO", 9 GPIO 1, 10 ES/RST "Exit transparent transmission mode/Restore factory value", 11 TXOP1 "Net gape 1 TX-P", 12 TXON1 "10/100 PHY Port #1 TXN", 13 RXIP2 "10/100 PHY Port #2 TXP", 14 RXIN2 "10/100 PHY Port #2 TXN", 15 RXIN1 "10/100 PHY Port #1 RXN", 16 RXIP1 "10/100 PHY Port #1 RXP", 17 TXON2 "10/100 PHY Port #2 OXN", 18 TXOP2 "10/100 PHY Port #2 OXP", 19 GPIO 2 "General GPIO Reserved", 20 UART RX "UART RXD.", 21 UART TX "UART TXD.", 22 GPIO 3 "General GPIO Reserved", 23 LINK 2 "10/100 PHY Port #2 activity LED", 24 GPIO 4 "General GPIO Reserved", 25 WPS/RST "WiFi Protected Setup /Restore factory value", 26 GPIO 5 "General GPIO Reserved", 27 VO 1.8v "1.8V Output (Suuport Atmost 300mA)", 28 VCC "Supply Voltage, 5V+/-10%"
text: wifi

## HM-TRP
designator M?
footprint HM-TRP (Footprint not found)
pins: 1 VCC, 2 DTX, 3 GND, 4 DRX, 5 CONFIG, 6 ENABLE, 7 TEST, 8 ANT, 9 GND

## HMC197B
designator U?
GaAs MMIC SPDT  SWITCH, DC- 3 GHz
footprint SOT-23-6 (Footprint not found)
pins: 1 RF1, 1 RFC, 2 GND, 4 RF2, 5 B, 6 A

## HMC374
designator U?
SMT PHEMT LOW NOISE  AMPLIFIER, 0.3 - 3.0 GHz
footprint SOT-23-6
pins: 2 GND hidden to GND, 3 IN, 6 GND hidden to GND, 6 OUT
text: LNA

## HMC546MS8G
designator U?
GaAs MMIC 20W FAILSAFE SWITCH
footprint SOT-8
pins: 1 TX, 2 GND hidden to GND, 3 Vctl, 5 RX, 6 VDD, 7 GND hidden to GND, 8 RFC, 9 GND hidden to GND

## HMC5883
designator HMC5883
Compass Sensor
footprint HMC5883
pins: 1 SCL "Serial Clock – I2C Master/Slave Clock", 2 VDD "Power Supply (2.16V to 3.6V)", 4 S1 "Tie to VDDIO", 8 SETP "Set/Reset Strap Positive – S/R Capacitor (C2) Connection", 9 GND "Supply Ground", 10 C1 "Reservoir Capacitor (C1) Connection", 11 GND "Supply Ground", 12 SETC "S/R Capacitor (C2) Connection – Driver Side", 13 VDDIO "IO Power Supply (1.71V to VDD)", 15 DRDY "Data Ready, Interrupt Pin. Internally pulled high. Optional connection. Low for 250 ?sec when data is placed in the data output registers.", 16 SDA "Serial Data – I2C Master/Slave Data"
text: N

## HMR
designator HMR?, comment HM-R
footprint HMR
pins: 1 VCC, 2 DATA, 3 GND, 4 EN

## HMT
designator HMT?
footprint HMT
pins: 1 VCC, 2 DATA, 3 GND
text: HM-T

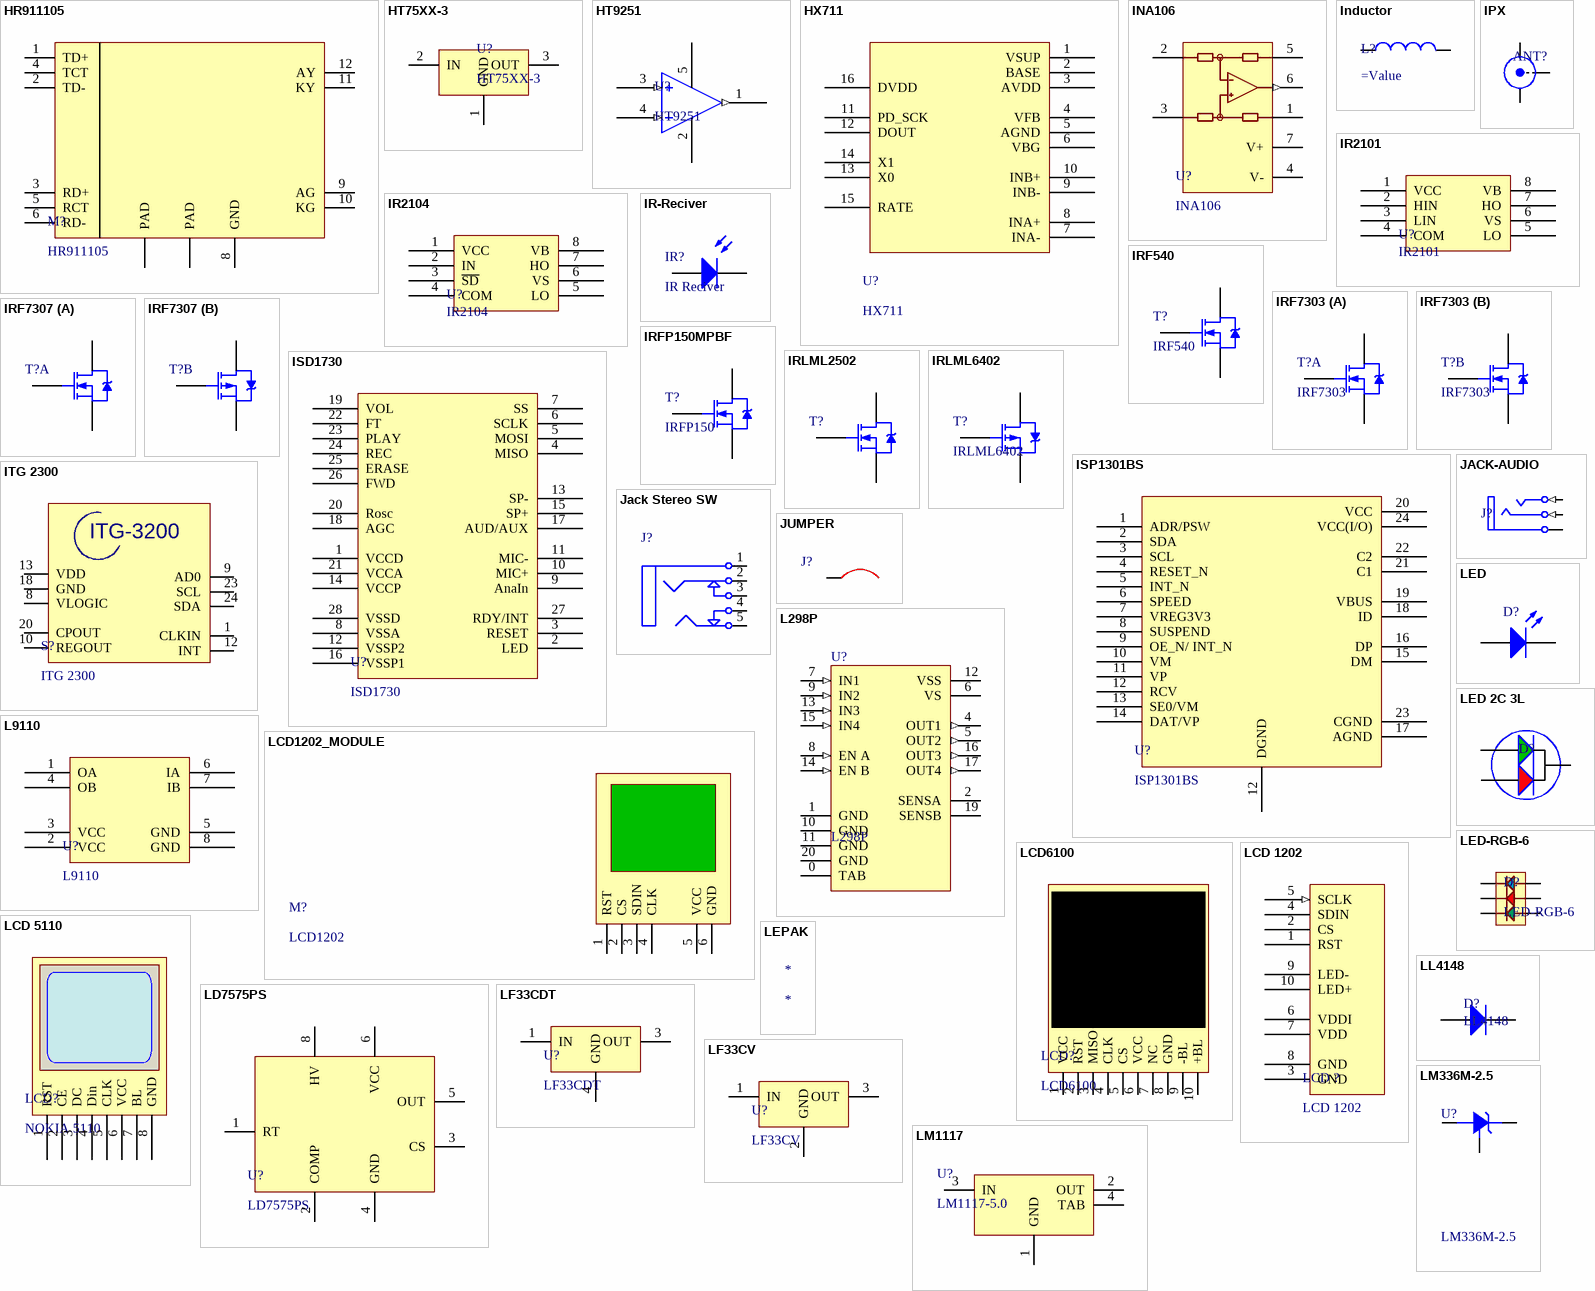
[diagram p4: symbols HR911105 to LM1117]

## HR911105
designator M?
RJ45 JACK
footprint HR911105
pins: 1 TD+, 2 TD-, 3 RD+, 4 TCT, 5 RCT, 6 RD-, 7 NC hidden, 8 GND, 9 AG, 10 KG, 11 KY, 12 AY, MH1 PAD, MH2 PAD

## HT75XX-3
designator U?
100mA Low Power LDO
footprint sot-89
pins: 1 GND, 2 IN, 3 OUT

## HT9251
designator U?
footprint SOT-23-5
pins: 1 OUT (out), 2 VSS "NEGATIVE", 3 IN+ (in), 4 IN- (in), 5 VDD "POSITIVE"

## HX711
designator U?
24-Bit Analog-to-Digital Converter (ADC) for Weigh Scales
footprint SOIC-16N
pins: 1 VSUP, 2 BASE, 3 AVDD, 4 VFB, 5 AGND, 6 VBG, 7 INA-, 8 INA+, 9 INB-, 10 INB+, 11 PD_SCK "Ground: Ground path for negative PWM speaker drive.", 12 DOUT "Ground: Ground path for positive PWM speaker drive.", 13 X0 "Analog Ground: Ground path for analog circuitry.", 14 X1 "Digital Ground: Ground path for digital circuitry", 15 RATE "Power Supply for PWM Speaker Driver: Power for PWM speaker drive.", 16 DVDD "Analog Power Supply. Power supply for analog circuitry."

## INA106
designator U?
Precision Unity Gain Diff. Amplifier
footprint SOIC-8N
pins: 1 REF, 2 -IN, 3 +IN, 4 V- (power), 5 SENSE, 6 OUT (out), 7 V+ (power)

## Inductor
designator L?
Ferrite
footprint i0805
pins: 1, 2

## IPX
designator ANT?, comment IPX CONN  (value not drawn)
footprint IPX
pins: 1 SIG, 2 GND, 3 GND

## IR2101
designator U?
HIGH AND LOW SIDE DRIVER
footprint SOIC-8N
pins: 1 VCC, 2 HIN, 3 LIN, 4 COM, 5 LO, 6 VS, 7 HO, 8 VB

## IR2104
designator U?
HIGH AND LOW SIDE DRIVER
footprint SOIC-8N
pins: 1 VCC, 2 IN, 3 ~{SD}, 4 COM, 5 LO, 6 VS, 7 HO, 8 VB

## IR-Reciver
designator IR?, comment IR Reciver
footprint LED 3mm
pins: 1 A, 2 K

## IRF540
designator T?
N-Channel MOSFET
footprint TO-220 Right
footprint TO-220
pins: 1 G, 2 D, 3 S

## IRF7303
designator T?
footprint SOIC-8N
part A pins: 1 S, 2 G, 7 D, 8 D
part B pins: 3 S, 4 G, 5 D, 6 D

## IRF7307
designator T?  (value not drawn)
footprint SOIC-8N
part A pins: 1 S, 2 G, 7 D, 8 D
part B pins: 3 S, 4 G, 5 D, 6 D

## IRFP150MPBF
designator T?, comment IRFP150
HEXFET
footprint TO-247 (SIP with Mounting Hole; 3 Leads; Body 20 x 15.6 x 5 mm (typ); Pitch 5.45 mm)
pins: 1 G, 2 D, 3 S

## IRLML2502
designator T?  (value not drawn)
POWER N-ch MOSFET
footprint SOT-23
pins: 1 G, 2 S, 3 D

## IRLML6402
designator T?
footprint SOT-23
pins: 1 G, 2 S, 3 D

## ISD1730
designator U?
Single-Chip  Voice Record & Playback Devices
footprint SOIC-28N
pins: 1 VCCD "Digital Power Supply: Power supply for digital circuitry.", 2 LED "LED: An LED output", 3 RESET "RESET: When active, the device enters into a known state.", 4 MISO, 5 MOSI, 6 SCLK, 7 SS, 8 VSSA "Analog Ground: Ground path for analog circuitry.", 9 AnaIn, 10 MIC+, 11 MIC-, 12 VSSP2 "Ground: Ground path for negative PWM speaker drive.", 13 SP-, 14 VCCP "Power Supply for PWM Speaker Driver: Power for PWM speaker drive.", 15 SP+, 16 VSSP1 "Ground: Ground path for positive PWM speaker drive.", 17 AUD/AUX, 18 AGC, 19 VOL "LED: An LED output", 20 Rosc "RESET: When active, the device enters into a known state.", 21 VCCA "Analog Power Supply. Power supply for analog circuitry.", 22 FT, 23 PLAY, 24 REC, 25 ERASE "LED: An LED output", 26 FWD "RESET: When active, the device enters into a known state.", 27 RDY/INT, 28 VSSD "Digital Ground: Ground path for digital circuitry"

## ISP1301BS
designator U?
Universal Serial Bus On-The-Go transceiver
footprint QFN-24-PAD
pins: 1 ADR/PSW, 2 SDA, 3 SCL, 4 RESET_N, 5 INT_N, 6 SPEED, 7 VREG3V3, 8 SUSPEND, 9 OE_N/ INT_N, 10 VM, 11 VP, 12 RCV, 12 DGND, 13 SE0/VM, 14 DAT/VP, 15 DM, 16 DP, 17 AGND, 18 ID, 19 VBUS, 20 VCC, 21 C1, 22 C2, 23 CGND, 24 VCC(I/O)

## ITG 2300
designator S?
IMU SENSOR; DESIGNER: PARSA MALEKPOUR
footprint QFN50P400X400-24V6L (QFN, 24-Leads, Body 4x4mm, Pitch 0.5mm, IPC High Density)
pins: 1 CLKIN "Optional external reference clock input. Connect to GND if unused.", 8 VLOGIC "Digital IO supply voltage. VLOGIC must be ? VDD at all times.", 9 AD0 "I2C Slave Address LSB", 10 REGOUT "Regulator filter capacitor connection", 11 RESV_G hidden to GND "Reserved - Connect to ground.", 12 INT "Interrupt digital output (totem pole or open-drain)", 13 VDD "Power supply voltage", 18 GND "Power supply ground", 20 CPOUT "Charge pump capacitor connection", 23 SCL "I2C serial clock", 24 SDA "I2C serial data"
text: ITG-3200

## Jack Stereo SW
designator J?  (value not drawn)
3-Conductor Jack with 2 break contacts (normals) and 2 auxiliary make contacts
footprint Stereo-SW
pins: 1, 2, 3, 4, 5 4

## JACK-AUDIO
designator J?, comment JACK  (value not drawn)
footprint JACK-STERO
pins: 2 G (power) "Sleeve (Ground)", 3 R (in) "Ring/Right Channel/(-)", 4 T (in) "Tip/Left Channel/(+)"

## JUMPER
designator J?  (value not drawn)
footprint JUMPER-0805
footprint JUMPER-1206 (Footprint not found)
pins: 1

## L298P
designator U?
Dual Full Bridge Driver; Revision 1: 24-Aug-2001: Footprint Added.; Revision 2: 17-Jul-2002: Re-released for DXP Platform.; Package Information: Latest Revision: Apr-1998; Published: 8-Jun-2000; Datasheet: Latest Revision: Jul-1999; Package Reference: Multiwatt15H; Publisher: Altium Limited
footprint POWERSO-20
pins: 0 TAB (power), 1 GND (power), 2 SENSA, 3 NC hidden, 4 OUT1 (out), 5 OUT2 (out), 6 VS (power), 7 IN1 (in), 8 EN A (in), 9 IN2 (in), 10 GND (power), 11 GND (power), 12 VSS (power), 13 IN3 (in), 14 EN B (in), 15 IN4 (in), 16 OUT3 (out), 17 OUT4 (out), 18 NC hidden, 19 SENSB, 20 GND (power)

## L9110
designator U?
Motor control driver chip
footprint SOIC-8N
pins: 1 OA, 2 VCC, 3 VCC, 4 OB, 5 GND, 6 IA, 7 IB, 8 GND

## LCD1202_MODULE
designator M?, comment LCD1202
footprint LCD1202-MODULE
pins: 1 RST, 2 CS, 3 SDIN, 4 CLK, 5 VCC, 6 GND

## LCD6100
designator LCD?
footprint LCD6100
pins: 1 VCC, 2 RST, 3 MISO, 4 CLK, 5 CS, 6 VCC, 7 NC, 8 GND, 9 -BL, 10 +BL

## LCD 1202
designator LCD ?
footprint LCD 1202 (NOKIA 1202 LCD)
pins: 1 RST, 2 CS (oc), 3 GND, 4 SDIN, 5 SCLK (in), 6 VDDI "+3.3V", 7 VDD "+3.3V", 8 GND, 9 LED-, 10 LED+

## LCD 5110
designator LCD?, comment NOKIA 5110
NOKIA 5110 LCD 84mm x 84mm
pins: 1 RST, 2 CE, 3 DC, 4 Din, 5 CLK, 6 VCC, 7 BL, 8 GND

## LD7575PS
designator U?
Green-Mode PWM Controller with High-Voltage  Start-Up Circuit
footprint SOIC-8N
pins: 1 RT, 2 COMP, 3 CS, 4 GND, 5 OUT, 6 VCC, 8 HV

## LED
designator D?  (value not drawn)
footprint LED-1206
footprint LED 3MM
footprint led-0603
pins: 1 A, 2 K

## LED 2C 3L
designator D?, comment LED  (value not drawn)
LED 2 COLOR BUT 3 LEAD
footprint LED2 (LED 3 LEAD)
pins: 1, 2, 3

## LED-RGB-6
designator D?
footprint LED-5050
pins: 1 GRN-A, 2 RED-A, 3 BLU-A, 4 BLU-C, 5 RED-C, 6 GRN-C

## LEPAK
designator *

## LF33CDT
designator U?
footprint TO-252
pins: 1 IN, 3 OUT, 4 GND

## LF33CV
designator U?
footprint TO-220
pins: 1 IN, 2 GND, 3 OUT

## LL4148
designator D?
footprint SOD-80 (MINI MELF)
pins: 1 A, 2 K

## LM336M-2.5
designator U?
Voltage Reference Diode, 8-pin Narrow SOIC; Manufacturer: National Semiconductor; PackageTopMarking: NSZXTT*LM336*M2.5; PowerWise: N; CompType: Voltage Reference IC; High-Reliability: Y; DatasheetVersion: Jun-2005; PackageVersion: revM, May-2009; PackageReference: M08A; PackageDescription: SOIC Narrow, 4.9 x 3.9 x 1.45mm, 8 Lead, 1.27mm Pitch; PartNumber: LM336M-2.5; RoHS: N; PinCount: 8; Code_JEDEC: MS-012-AA; Code_IPC: SOIC127P600-8; ComponentLink1Description: Manufacturer URL; ComponentLink1URL: http://www.national.com/; ComponentLink2Description: LM136-2.5 Datasheet; ComponentLink2URL: http://www.national.com/ds/LM/LM136-2.5.pdf; ComponentLink3Description: LM336-2.5 Web Page; ComponentLink3URL: http://www.national.com/pf/LM/LM336-2.5.html; ComponentLink4Description: M08A Package Page; ComponentLink4URL: http://www.national.com/packaging/folders/m08a.html
footprint soic-8n
pins: 4 -V, 5 ADJ, 8 +V

## LM1117
designator U?, comment LM1117-5.0
800mA Low-Dropout Linear Regulator; Output Voltage: 5.0
footprint SOT-223
pins: 1 GND (power), 2 OUT (power), 3 IN (power), 4 TAB (power)

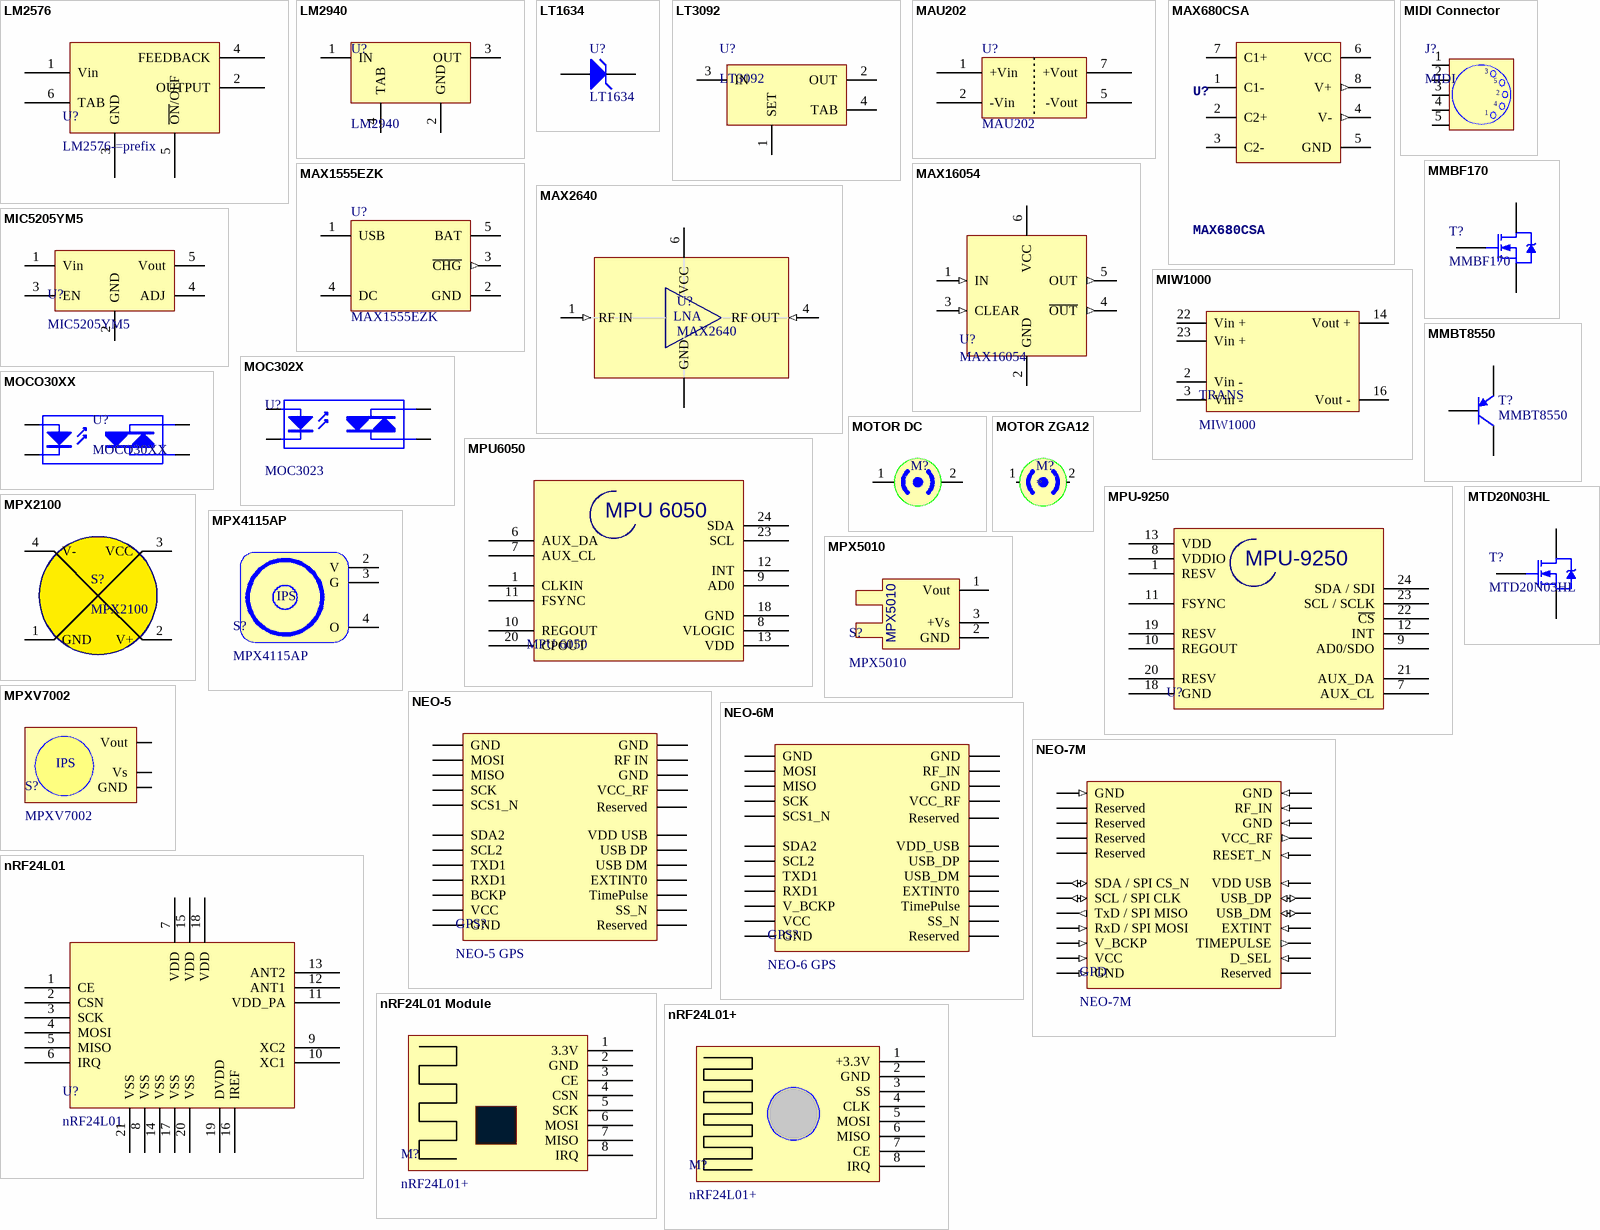
[diagram p5: symbols LM2576 to nRF24L01+]

## LM2576
designator U?, comment LM2576-=prefix
3.0 A, 15 V, Step−Down  Switching Regulator; prefix: ADJ
footprint D2PAK
pins: 1 Vin, 2 OUTPUT, 3 GND, 4 FEEDBACK, 5 ~{ON}/OFF, 6 TAB

## LM2940
designator U?
x.x Volt, 800mA Low-Dropout Linear Regulator, 4-pin SOT-223; PartNumber: LM1117IMP-3.3; Manufacturer: National Semiconductor; PackageTopMarking: XYTT*N05B; PowerWise: N; CompType: LDO IC; Published: 4-Dec-2008; DatasheetVersion: Apr-2006; PackageVersion: revB, Apr-2003; PackageReference: MP04A; Publisher: Altium Limited; PackageDescription: Molded SOT-223, 6.50 x 3.56 x 1.6mm Body, 4 Lead, 2.3mm Pitch; Supplier 1: Farnell; Supplier Part Number 1: 7614123; RoHS: N; PinCount: 4; Code_JEDEC: TO-261-AA; Code_IPC: SOT223-4; ComponentLink1Description: LM1117 Datasheet; ComponentLink1URL: http://www.national.com/ds/LM/LM1117.pdf; ComponentLink2Description: LM1117 Web Page; ComponentLink2URL: http://www.national.com/pf/LM/LM1117.html; ComponentLink3Description: MP04A Package Page; ComponentLink3URL: http://www.national.com/packaging/folders/mp04a.html
footprint SOT-223
pins: 1 IN (power), 2 GND (power), 3 OUT (power), 4 TAB (power)

## LT1634
designator U?
Micropower Precision  Shunt Voltage Reference; Published: 8-Jun-2000; LatestRevisionDate: 17-Jul-2002; LatestRevisionNote: Re-released for DXP Platform.; PackageReference: DIODE-0.7; Publisher: Altium Limited; PackageDescription: Diode, Thru-Hole; 2 Leads; 0.7 in Pin Spacing
footprint MSOP-8
pins: 4 GND, 6 VOUT

## LT3092
designator U?
footprint SOT-223
pins: 1 SET (power), 2 OUT (power), 3 IN (power), 4 TAB (power)

## MAU202
designator U?
1W, FIXED INPUT ISOLATED & UNREGULATED / SINGLE OUTPUT DC-DC CONVERTER
footprint MAU202
pins: 1 +Vin, 2 -Vin, 5 -Vout, 7 +Vout

## MAX680CSA
designator U?
Switched-capcitor VOLTAGE CONVERTER; MF: MAXIM; MPN: MAX680CSA; OC_FARNELL: 9725717; OC_NEWARK: 34C3975
footprint SOIC-8N
pins: 1 C1-, 2 C2+, 3 C2-, 4 V- (out), 5 GND, 6 VCC, 7 C1+, 8 V+ (out)

## MAX1555EZK
designator U?
SOT23 Dual-Input USB/AC Adapter 1-Cell Li+  Battery Chargers; Manufacturer: MAXIM Technology; Battery Chemistry: Li-Ion, Li-Polymer; Charge Termination: C/10; Float Voltage: 4.2 V; Max Charge Current(A): 0.8; Number of Cells: 1; Type of Charger: Linear; Vin Max(V): 6.5; Vin Min(V): 4.25; PackageVersion: Jun-10; PackageReference: S5-5; PackageDescription: 5-Pin Plastic TSOT-23, Body 1.63 x 2.90 mm, Pitch 0.95 mm; RoHS: FALSE; Mounting Technology: Surface Mount; Code_JEDEC: MO-193; PartNumber: MAX1555EZK; ComponentLink1Description: Manufacturer URL; ComponentLink1URL: http://www.linear.com/; ComponentLink2Description: Datasheet; ComponentLink2URL: http://cds.linear.com/docs/en/datasheet/405442xf.pdf; ComponentLink3Description: Package Specification; ComponentLink3URL: http://cds.linear.com/docs/en/packaging/SOT_5_05-08-1635.pdf
footprint SOT-23-5
pins: 1 USB (hiz), 2 GND (power) "Ground.", 3 ~{CHG} (out), 4 DC (power), 5 BAT (power) "Charge Current Output. Provides charge current to the battery and regulates the final float voltage to 4.2V. An internal precision resistor divider from this pin sets the float voltage which is disconnected in shutdown mode."

## MAX2640
designator U?
300MHz to 2500MHz SiGe  Ultra-Low-Noise Amplifiers
footprint SOT-23-6
pins: 1 RF IN (in) "RF Input (Pin)", 2 GND "Drain Voltage (VDD), Battery", 3 GND "Drain Voltage (VDD), Battery", 4 RF OUT (in) "RF Output", 5 GND "Drain Voltage (VDD), Battery", 6 VCC "Gate Voltage (VGG), Power Control"
text: LNA

## MAX16054
designator U?
On/Off Controller with Debounce and / ±15kV ESD Protection
footprint SOT-23-6
pins: 1 IN (in), 2 GND (power), 3 CLEAR (in), 4 ~{OUT} (out), 5 OUT (out), 6 VCC (power)

## MIC5205YM5
designator U?
150 mA Low-Noise LDO Regulator
footprint SOT-23-5
pins: 1 Vin, 2 GND, 3 EN, 4 ADJ, 5 Vout

## MIDI Connector
designator J?, comment MIDI
pins: 1, 2, 3, 4, 5

## MIW1000
designator TRANS
DC/DC CONVERTOR SINGLE OUTPUT
footprint MIW1000 (DC/DC CONVERTER)
pins: 2 Vin -, 3 Vin -, 11 NC hidden, 14 Vout +, 16 Vout -, 22 Vin +, 23 Vin +

## MMBF170
designator T?
N-CHANNEL ENHANCEMENT MODE MOSFET
footprint sot-23
pins: 1 G, 2 S, 3 D

## MMBT8550
designator T?
footprint SOT-23-3 (SOT-23 3PIN)
pins: 1 C, 2 E, 3 B

## MOC302X
designator U?, comment MOC3023
Opto-Triac; Publisher: ATROPATE
footprint SOIC-6-BIG
pins: 1 A, 2 K, 4 A/K, 6 A/K

## MOCO30XX
designator U?
footprint DIP6
pins: 1 A, 2 K, 4 A/K, 6 A/K

## MOTOR DC
designator M?  (value not drawn)
footprint CONN-2
pins: 1, 2

## MOTOR ZGA12
designator M?
pins: 1, 2

## MPU6050
designator MPU 6050, comment MPU 6050  (value not drawn)
footprint MPU6050
pins: 1 CLKIN "Optional external reference clock input. Connect to GND if unused.", 6 AUX_DA "I2C master serial data, for connecting to external sensors", 7 AUX_CL "I2C Master serial clock, for connecting to external sensors", 8 VLOGIC "Digital I/O supply voltage", 9 AD0 "I2C Slave Address LSB (AD0)", 10 REGOUT "Regulator filter capacitor connection", 11 FSYNC "Frame synchronization digital input. Connect to GND if unused.", 12 INT "Interrupt digital output (totem pole or open-drain)", 13 VDD "Power supply voltage and Digital I/O supply voltage", 18 GND "Power supply ground", 19 RESV hidden "Reserved. Do not connect.", 20 CPOUT "Charge pump capacitor connection", 21 RESV hidden "Reserved. Do not connect.", 22 RESV hidden "Reserved. Do not connect.", 23 SCL "I2C serial clock (SCL)", 24 SDA "I2C serial data (SDA)"

## MPU-9250
designator U?  (value not drawn)
footprint QFN-24
pins: 1 RESV "Digital I/O supply voltage", 7 AUX_CL "I2C Master serial clock, for connecting to external sensors", 8 VDDIO "Digital I/O supply voltage", 9 AD0/SDO "I2C Slave Address LSB (AD0)", 10 REGOUT "Regulator filter capacitor connection", 11 FSYNC "Frame synchronization digital input. Connect to GND if unused.", 12 INT "Interrupt digital output (totem pole or open-drain)", 13 VDD "Power supply voltage and Digital I/O supply voltage", 18 GND "Power supply ground", 19 RESV "Digital I/O supply voltage", 20 RESV "Digital I/O supply voltage", 21 AUX_DA "I2C master serial data, for connecting to external sensors", 22 ~{CS} "Charge pump capacitor connection", 23 SCL / SCLK "I2C serial clock (SCL)", 24 SDA / SDI "I2C serial data (SDA)"

## MPX2100
designator S?
100 kPa On-Chip Temperature  Compensated and Calibrated  Silicon Pressure Sensors
footprint HDR1X4 (Footprint not found)
pins: 1 GND (power), 2 V+, 3 VCC (power), 4 V-

## MPX4115AP
designator S?
Pressure Sensor
footprint MPX4115AP
pins: 2 V "Vs", 3 G "Ground", 4 O "Vout"
text: IPS

## MPX5010
designator S?
footprint MPX5010
pins: 1 Vout, 2 GND, 3 +Vs, 4 NC hidden, 5 NC hidden, 6 NC hidden

## MPXV7002
designator S?
Pressure Sensor; Designer: Parsa Malekpour
footprint mpxv7002
pins: 2 Vs (power), 3 GND (power), 4 Vout (power)
text: IPS

## MTD20N03HL
designator T?
footprint TO-252
pins: 1 G, 3 S, 4 D

## NEO-5
designator GPS?, comment NEO-5 GPS
Designer: Parsa Malekpour
footprint NEO-5
pins: 1 Reserved, 2 SS_N, 3 TimePulse, 4 EXTINT0, 5 USB DM, 6 USB DP, 7 VDD USB, 8 Reserved, 9 VCC_RF, 10 GND, 11 RF IN, 12 GND, 13 GND, 14 MOSI "/CFG_COM0", 15 MISO "MISO/CFG_COM1", 16 SCK "SCK/CFG_GPS0", 17 SCS1_N, 18 SDA2, 19 SCL2, 20 TXD1, 21 RXD1, 22 BCKP, 23 VCC, 24 GND

## NEO-6M
designator GPS?, comment NEO-6 GPS
Designer: Parsa Malekpour
footprint NEO-6
pins: 1 Reserved, 2 SS_N, 3 TimePulse, 4 EXTINT0, 5 USB_DM, 6 USB_DP, 7 VDD_USB, 8 Reserved, 9 VCC_RF, 10 GND, 11 RF_IN, 12 GND, 13 GND, 14 MOSI "/CFG_COM0", 15 MISO "MISO/CFG_COM1", 16 SCK "SCK/CFG_GPS0", 17 SCS1_N, 18 SDA2, 19 SCL2, 20 TXD1, 21 RXD1, 22 V_BCKP, 23 VCC, 24 GND

## NEO-7M
designator GPD
footprint NEO-7
pins: 1 Reserved, 2 D_SEL (in) "Interface select", 3 TIMEPULSE (out) "Time pulse (1PPS)", 4 EXTINT (in) "External Interrupt Pin", 5 USB_DM (io) "USB Data", 6 USB_DP (io) "USB Data", 7 VDD USB (in) "USB Supply", 8 RESET_N (in), 9 VCC_RF (out) "Output Voltage RF section", 10 GND (in) "Ground", 11 RF_IN (in) "GPS signal input", 12 GND (in) "Ground", 13 GND (in) "Ground", 14 Reserved, 15 Reserved, 16 Reserved, 17 Reserved, 18 SDA / SPI CS_N (io) "DDC Data if D_SEL =1 (or open) / SPI Chip Select if D_SEL = 0", 19 SCL / SPI CLK (io) "DDC Clock if D_SEL =1(or open) / SPI Clock if D_SEL = 0", 20 TxD / SPI MISO (out) "Serial Port if D_SEL =1(or open) / SPI MISO if D_SEL = 0", 21 RxD / SPI MOSI (in) "Serial Port if D_SEL =1(or open) / SPI MOSI if D_SEL = 0", 22 V_BCKP (in) "Backup voltage supply", 23 VCC (in) "Supply voltage", 24 GND (in) "Ground"

## nRF24L01
designator U?
footprint QFN20
pins: 1 CE, 2 CSN, 3 SCK, 4 MOSI, 5 MISO, 6 IRQ, 7 VDD (power), 8 VSS (power), 9 XC2, 10 XC1, 11 VDD_PA, 12 ANT1, 13 ANT2, 14 VSS (power), 15 VDD (power), 16 IREF, 17 VSS (power), 18 VDD (power), 19 DVDD, 20 VSS (power), 21 VSS (power)

## nRF24L01 Module
designator M?, comment nRF24L01+
nRF24L01 Module
footprint nRF24L01+ Module
pins: 1 3.3V, 2 GND, 3 CE, 4 CSN, 5 SCK, 6 MOSI, 7 MISO, 8 IRQ

## nRF24L01+
designator M?
2.4GHz wireless module
footprint nRF24L01+ - SMD
pins: 1 +3.3V, 2 GND, 3 SS, 4 CLK, 5 MOSI, 6 MISO, 7 CE, 8 IRQ

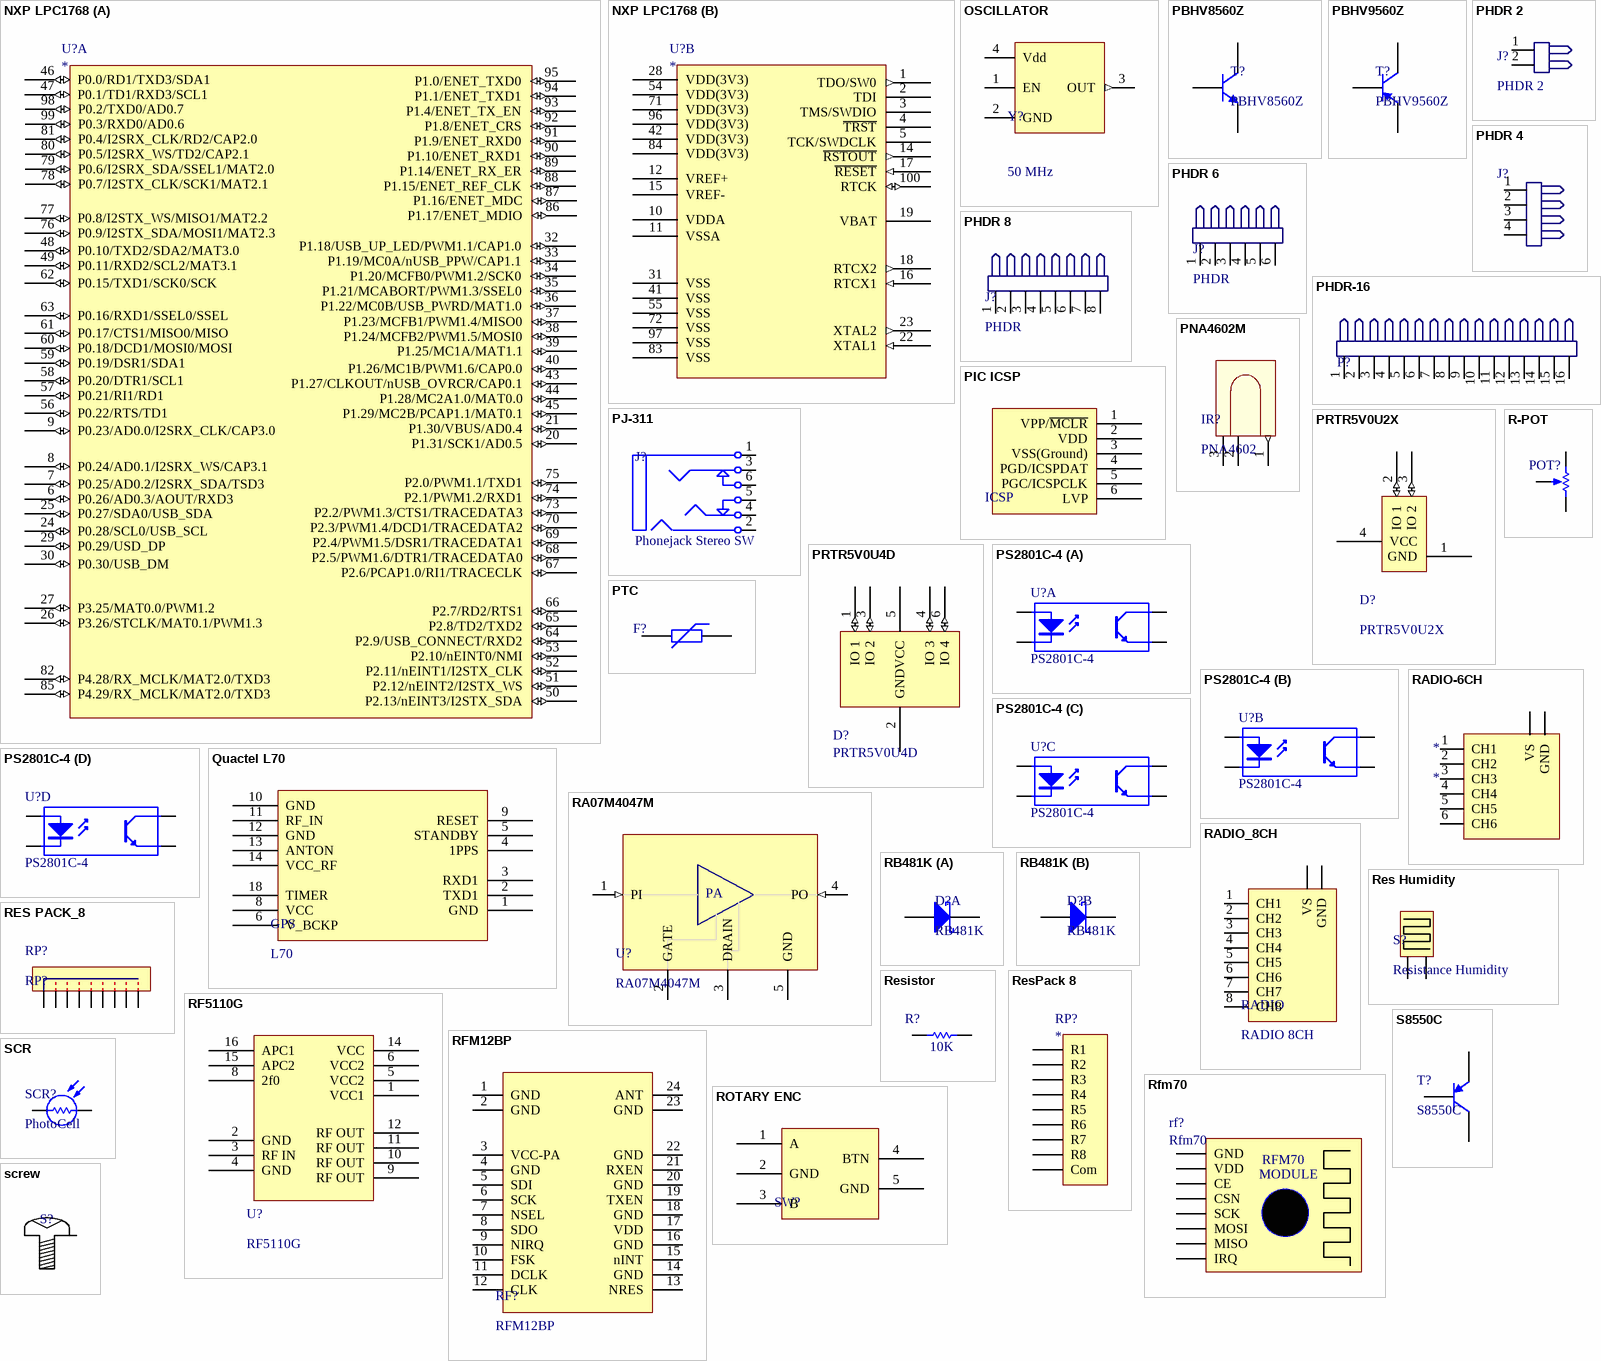
[diagram p6: symbols NXP LPC1768 to screw]

## NXP LPC1768
designator U?
footprint SOT407-1_M (Thin QFP, 100-Leads, Body 14x14mm, Pitch 0.5mm, IPC Low Density)
part A pins: 6 P0.26/AD0.3/AOUT/RXD3 (io), 7 P0.25/AD0.2/I2SRX_SDA/TSD3 (io), 8 P0.24/AD0.1/I2SRX_WS/CAP3.1 (io), 9 P0.23/AD0.0/I2SRX_CLK/CAP3.0 (io), 20 P1.31/SCK1/AD0.5 (io), 21 P1.30/VBUS/AD0.4 (io), 24 P0.28/SCL0/USB_SCL (io), 25 P0.27/SDA0/USB_SDA (io), 26 P3.26/STCLK/MAT0.1/PWM1.3 (io), 27 P3.25/MAT0.0/PWM1.2 (io), 29 P0.29/USD_DP (io), 30 P0.30/USB_DM (io), 32 P1.18/USB_UP_LED/PWM1.1/CAP1.0 (io), 33 P1.19/MC0A/nUSB_PPW/CAP1.1 (io), 34 P1.20/MCFB0/PWM1.2/SCK0 (io), 35 P1.21/MCABORT/PWM1.3/SSEL0 (io), 36 P1.22/MC0B/USB_PWRD/MAT1.0 (io), 37 P1.23/MCFB1/PWM1.4/MISO0 (io), 38 P1.24/MCFB2/PWM1.5/MOSI0 (io), 39 P1.25/MC1A/MAT1.1 (io), 40 P1.26/MC1B/PWM1.6/CAP0.0 (io), 43 P1.27/CLKOUT/nUSB_OVRCR/CAP0.1 (io), 44 P1.28/MC2A1.0/MAT0.0 (io), 45 P1.29/MC2B/PCAP1.1/MAT0.1 (io), 46 P0.0/RD1/TXD3/SDA1 (io), 47 P0.1/TD1/RXD3/SCL1 (io) "P0[1] — General purpose digital input/output pin.  O TD1 — CAN1 transmitter output. (LPC1769/68/66/65/64 only).  I RXD3 — Receiver input for UART3.  I/O SCL1 — I2C1 clock input/output. (This is not an I2C-bus compliant  open-drain pin).", 48 P0.10/TXD2/SDA2/MAT3.0 (io), 49 P0.11/RXD2/SCL2/MAT3.1 (io), 50 P2.13/nEINT3/I2STX_SDA (io), 51 P2.12/nEINT2/I2STX_WS (io), 52 P2.11/nEINT1/I2STX_CLK (io), 53 P2.10/nEINT0/NMI (io), 56 P0.22/RTS/TD1 (io), 57 P0.21/RI1/RD1 (io), 58 P0.20/DTR1/SCL1 (io), 59 P0.19/DSR1/SDA1 (io), 60 P0.18/DCD1/MOSI0/MOSI (io), 61 P0.17/CTS1/MISO0/MISO (io), 62 P0.15/TXD1/SCK0/SCK (io), 63 P0.16/RXD1/SSEL0/SSEL (io), 64 P2.9/USB_CONNECT/RXD2 (io), 65 P2.8/TD2/TXD2 (io), 66 P2.7/RD2/RTS1 (io), 67 P2.6/PCAP1.0/RI1/TRACECLK (io), 68 P2.5/PWM1.6/DTR1/TRACEDATA0 (io), 69 P2.4/PWM1.5/DSR1/TRACEDATA1 (io), 70 P2.3/PWM1.4/DCD1/TRACEDATA2 (io), 73 P2.2/PWM1.3/CTS1/TRACEDATA3 (io), 74 P2.1/PWM1.2/RXD1 (io), 75 P2.0/PWM1.1/TXD1 (io), 76 P0.9/I2STX_SDA/MOSI1/MAT2.3 (io), 77 P0.8/I2STX_WS/MISO1/MAT2.2 (io), 78 P0.7/I2STX_CLK/SCK1/MAT2.1 (io), 79 P0.6/I2SRX_SDA/SSEL1/MAT2.0 (io), 80 P0.5/I2SRX_WS/TD2/CAP2.1 (io), 81 P0.4/I2SRX_CLK/RD2/CAP2.0 (io), 82 P4.28/RX_MCLK/MAT2.0/TXD3 (io), 85 P4.29/RX_MCLK/MAT2.0/TXD3 (io), 86 P1.17/ENET_MDIO (io), 87 P1.16/ENET_MDC (io), 88 P1.15/ENET_REF_CLK (io), 89 P1.14/ENET_RX_ER (io), 90 P1.10/ENET_RXD1 (io), 91 P1.9/ENET_RXD0 (io), 92 P1.8/ENET_CRS (io), 93 P1.4/ENET_TX_EN (io), 94 P1.1/ENET_TXD1 (io), 95 P1.0/ENET_TXD0 (io), 98 P0.2/TXD0/AD0.7 (io), 99 P0.3/RXD0/AD0.6 (io)
part B pins: 1 TDO/SW0 (out), 2 TDI (power), 3 TMS/SWDIO (power), 4 ~{TRST} (power), 5 TCK/SWDCLK (power), 10 VDDA (power), 11 VSSA (power), 12 VREF+ (power), 13 NC (hiz) hidden, 14 ~{RSTOUT} (out), 15 VREF- (power), 16 RTCX1 (in), 17 ~{RESET} (in), 18 RTCX2 (out), 19 VBAT (power), 22 XTAL1 (in), 23 XTAL2 (out), 28 VDD(3V3) (power), 31 VSS (power), 41 VSS (power), 42 VDD(3V3) (power), 54 VDD(3V3) (power), 55 VSS (power), 71 VDD(3V3) (power), 72 VSS (power), 83 VSS (power), 84 VDD(3V3) (power), 96 VDD(3V3) (power), 97 VSS (power), 100 RTCK (io)

## OSCILLATOR
designator Y?, comment 50 MHz
OSCILLATOR; Frequency: 50 MHz
footprint ASV (OSC 5x7)
pins: 1 EN, 2 GND, 3 OUT (out), 4 Vdd

## PBHV8560Z
designator T?
600 V, 0.5 A NPN high-voltage low VCEsat (BISS) transistor
footprint SOT-223
pins: 1 B, 2 C, 3 E, 4 C

## PBHV9560Z
designator T?
600 V, 0.5 A PNP high-voltage low VCEsat (BISS) transistor; Designer: Parsa Malekpour
footprint SOT-223
pins: 1 B, 2 C, 3 E, 4 C

## PHDR 2
designator J?
PinHeader
footprint PHDR2 (Pin Header 2 M)
pins: 1, 2

## PHDR 4
designator J?  (value not drawn)
PinHeader
footprint PHDR4
pins: 1, 2, 3, 4

## PHDR 6
designator J?, comment PHDR
PinHeader
footprint PHDR6
pins: 1, 2, 3, 4, 5, 6

## PHDR 8
designator J?, comment PHDR
PinHeader
footprint PHDR8
pins: 1, 2, 3, 4, 5, 6, 7, 8

## PHDR-16
designator P?, comment PinHeader 16  (value not drawn)
footprint phdr16
pins: 1, 2, 3, 4, 5, 6, 7, 8, 9, 10, 11, 12, 13, 14, 15, 16

## PIC ICSP
designator ICSP, comment PIC ICSP SOCKET  (value not drawn)
footprint PHDR6
pins: 1 VPP/~{MCLR}, 2 VDD, 3 VSS(Ground), 4 PGD/ICSPDAT, 5 PGC/ICSPCLK, 6 LVP

## PJ-311
designator J?, comment Phonejack Stereo SW
4-Conductor Jack with 2 break contacts (normals) and 2 auxiliary make contacts; Published: 5-Jan-2004; LatestRevisionDate: 17-Dec-2003; LatestRevisionNote: PCB Footprint replaced.; DatasheetDocument: 07-Mar-2000; Publisher: Altium Limited; ComponentLink1Description: Manufacturer Link; ComponentLink1URL: http://domino.kycon.com/internet/Products.html
footprint PJ-311D
pins: 1, 2 4, 3 2, 4, 5 3, 6 5

## PNA4602M
designator IR?, comment PNA4602
38KHz IR Reciver Module
footprint PNA (IR RECIVER)
footprint PNA4602M (38KHz IR Reciver Module)
pins: 1 Vout (out), 2 VCC, 3 GND

## PRTR5V0U2X
designator D?
Ultra low capacitance double rail-to-rail ESD protection diode; reverse standoff voltage: 5.5V
footprint SOT-143B
pins: 1 GND (power), 2 IO 1 (io), 3 IO 2 (io), 4 VCC (power)

## PRTR5V0U4D
designator D?
Ultra low capacitance quadruple rail-to-rail ESD protection
footprint SOT-23-6
pins: 1 IO 1 (io), 2 GND (power), 3 IO 2 (io), 4 IO 3 (io), 5 VCC (power), 6 IO 4 (io)

## PS2801C-4
designator U?
4-Pin Phototransistor Optocoupler; Published: 24-Mar-1999; LatestRevisionDate: 04-Mar-2005; LatestRevisionNote: Sch pins 3 & 4 Swapped.; DatasheetVersion: Nov-2003; PackageReference: DIP-4; Publisher: Altium Limited
footprint soic-16n
part A pins: 1 A "Anode", 2 K "Cathode", 15 E "Emitter", 16 C "Collector"
part B pins: 3 A "Anode", 4 K "Cathode", 13 E "Emitter", 14 C "Collector"
part C pins: 5 A "Anode", 6 K "Cathode", 11 E "Emitter", 12 C "Collector"
part D pins: 7 A "Anode", 8 K "Cathode", 9 E "Emitter", 10 C "Collector"

## PTC
designator F?
PTC; Published: 24-Mar-1999; PackageVersion: Mar-2003; PackageReference: 6-0805
footprint PTC-0805
pins: 1, 2

## Quactel L70
designator GPS, comment L70
footprint QUECTEL L70
pins: 1 GND, 2 TXD1, 3 RXD1, 4 1PPS, 5 STANDBY, 6 V_BCKP, 7 NC hidden, 8 VCC, 9 RESET, 10 GND, 11 RF_IN, 12 GND, 13 ANTON, 14 VCC_RF, 15 NC hidden, 16 RESERVED hidden, 17 RESERVED hidden, 18 TIMER

## R-POT
designator POT?, comment POT  (value not drawn)
Varible Resistor; Resistance: 10K
footprint Multi Turn_H
footprint pot
footprint VOLUME
pins: 1 TOP, 2 BOT, 3 TAP

## RA07M4047M
designator U?
400-470MHz 7W 7.2V, 2 Stage Amp. For PORTABLE RADIO
footprint RA07M4047M
pins: 1 PI (in) "RF Input (Pin)", 2 GATE "Gate Voltage (VGG), Power Control", 3 DRAIN "Drain Voltage (VDD), Battery", 4 PO (in) "RF Output", 5 GND "Drain Voltage (VDD), Battery"
text: PA

## RADIO-6CH
designator *
footprint PHDR-3X6
pins: 1 CH1, 2 CH2, 3 CH3, 4 CH4, 5 CH5, 6 CH6, + VS, - GND

## RADIO_8CH
designator RADIO, comment RADIO 8CH
DESIGNER: PARSA MALEKPOUR; EMAIL: MALEKPOUR.PARSA@gMAIL.COM
footprint RADIO 3X8
footprint RADIO 2+8
pins: 1 CH1, 2 CH2, 3 CH3, 4 CH4, 5 CH5, 6 CH6, 7 CH7, 8 CH8, + VS, - GND

## RB481K
designator D?
Schottky Barrier Diode
footprint SOT-243
part A pins: 1 K, 2 A
part B pins: 3 A, 4 K

## Res Humidity
designator S?, comment Resistance Humidity
footprint Res Humidity
pins: 1, 2

## RES PACK_8
designator RP?, comment RP?
Resistor pack 8 wire; designer: parsa malekpour
footprint HDR1X8 (Footprint not found)
pins: 1 O, 2 R1, 3, 4, 5, 6, 7, 8, 8

## Resistor
designator R?, comment 10K
Resistor; Designer: Parsa Malekpour; Value: 10K
footprint R805
footprint R1206
footprint R0603
footprint R1210
footprint R2010
footprint RES-1/4W
footprint RES-1W
footprint RES-2W
footprint RES-5w
pins: 1, 2

## ResPack 8
designator RP?
Parsa
footprint ResPack 8 (Parsa4)
pins: 1 R1, 2 R2, 3 R3, 4 R4, 5 R5, 6 R6, 7 R7, 8 R8, 9 Com

## RF5110G
designator U?
3V GSM POWER AMPLIFIER
footprint QFN-16
pins: 1 VCC1, 2 GND, 3 RF IN, 4 GND, 5 VCC2, 6 VCC2, 8 2f0, 9 RF OUT, 10 RF OUT, 11 RF OUT, 12 RF OUT, 14 VCC, 15 APC2, 16 APC1, 17 GND hidden to GND

## RFM12BP
designator RF?
RF MODULE; DESIGNER: PARSA MALEKPOUR
footprint RFM12BP (RFM12BP FOOTPRINT)
pins: 1 GND, 2 GND, 3 VCC-PA "Positive power supply for power amplifier (12V)", 4 GND, 5 SDI "SPI data input", 6 SCK "SPI clock input", 7 NSEL "Chip select (active low)", 8 SDO "Serial data output with bus hold", 9 NIRQ "Interrupts request output(active low)", 10 FSK "Transmit FSK data input/ Received data output (FIFO not used)/ FIFO select", 11 DCLK "Clock output (no FIFO )/ external filter capacitor(analog mode)/ FIFO interrupts(active high)when FIFO level set to 1, FIFO empty interruption can be achieved", 12 CLK "Clock output for external microcontroller", 13 NRES "Reset output(active low)", 14 GND, 15 nINT "Interrupt input (active low)/Valid data indicator", 16 GND, 17 VDD "Positive power supply for FSK IC(2.2V-3.8V)", 18 GND, 19 TXEN "TX enable (active high ), Drive current ?3mA. TX disable(active low).", 20 GND, 21 RXEN "RX enable (active high), Drive current ?3mA. RX disable(active low).", 22 GND, 23 GND, 24 ANT "RF signal output/input (50 OHM)"

## Rfm70
designator rf?
spi rf module
footprint rfm70
pins: 1 GND, 2 VDD, 3 CE, 4 CSN, 5 SCK, 6 MOSI, 7 MISO, 8 IRQ
text: RFM70; MODULE

## ROTARY ENC
designator SW?, comment Rotary Encoder  (value not drawn)
Rotary Encoder with push button
footprint ROTARY ENC (ROTARY ENCODER)
pins: 1 A, 2 GND, 3 B, 4 BTN, 5 GND, 6 MH hidden, 7 MH hidden

## S8550C
designator T?
footprint TO-92
pins: 1 E, 2 B, 3 C

## SCR
designator SCR?, comment PhotoCell
pins: 1, 2

## screw
designator S?  (value not drawn)
footprint SCREW
pins: S

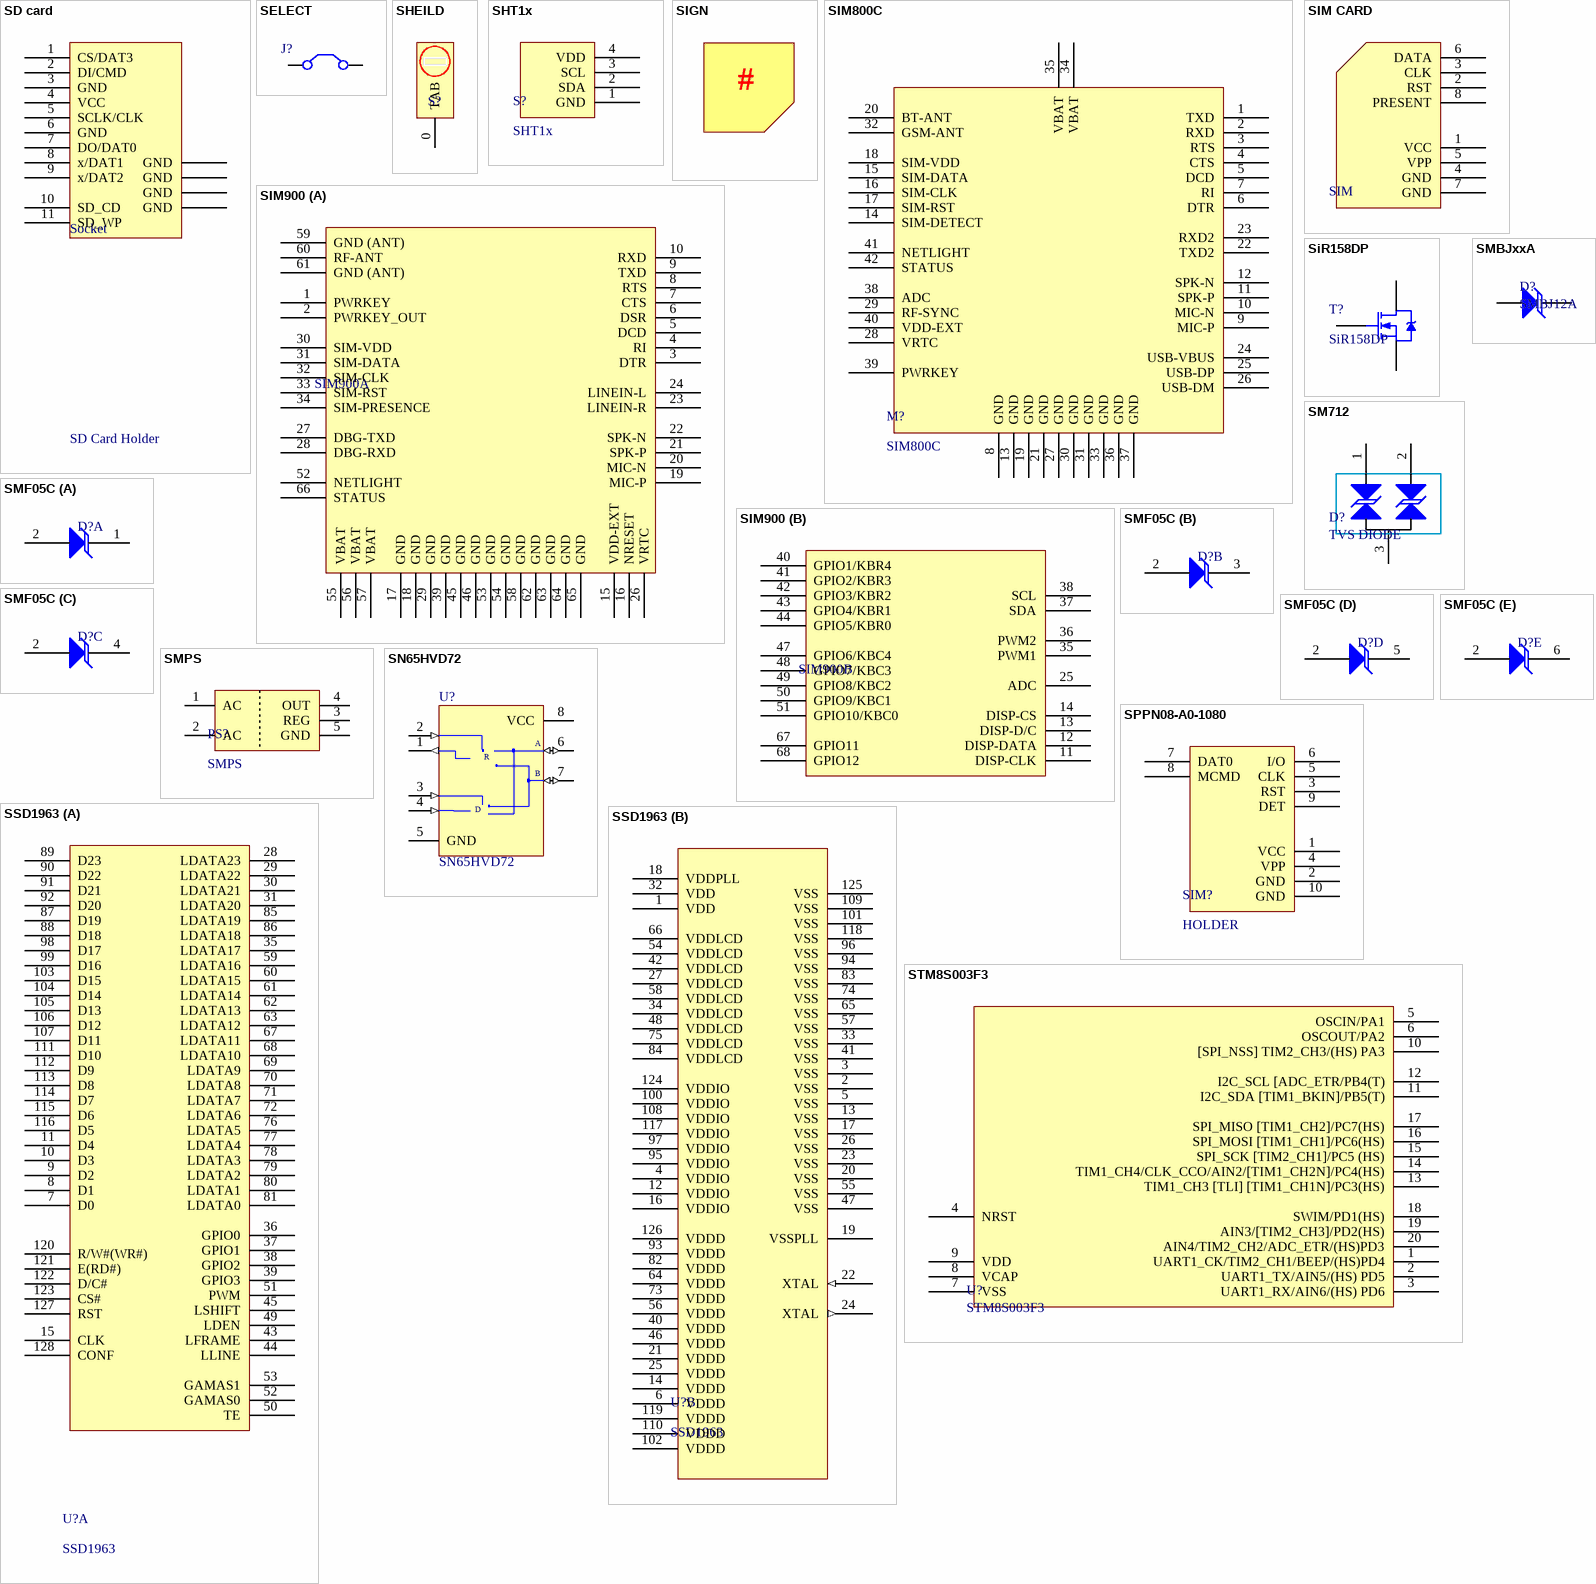
[diagram p7: symbols SD card to STM8S003F3]

## SD card
designator Socket, comment SD Card Holder
footprint SD-CARD-SOCKET
pins: 1 CS/DAT3, 2 DI/CMD, 3 GND, 4 VCC, 5 SCLK/CLK, 6 GND, 7 DO/DAT0, 8 x/DAT1, 9 x/DAT2, 10 SD_CD, 11 SD_WP, 12 GND, 12 GND, 12 GND, 12 GND

## SELECT
designator J?  (value not drawn)
DESIGNER: Parsa Malekpour
footprint jumper-2
pins: 1 C1, 2 C2

## SHEILD
designator S?, comment SHIELD  (value not drawn)
RF SHIELD
footprint SHIELD-1625
pins: 0 TAB